# Altium integrated library Infineon - AURIX.IntLib: 81 symbols (part 6 of 8)
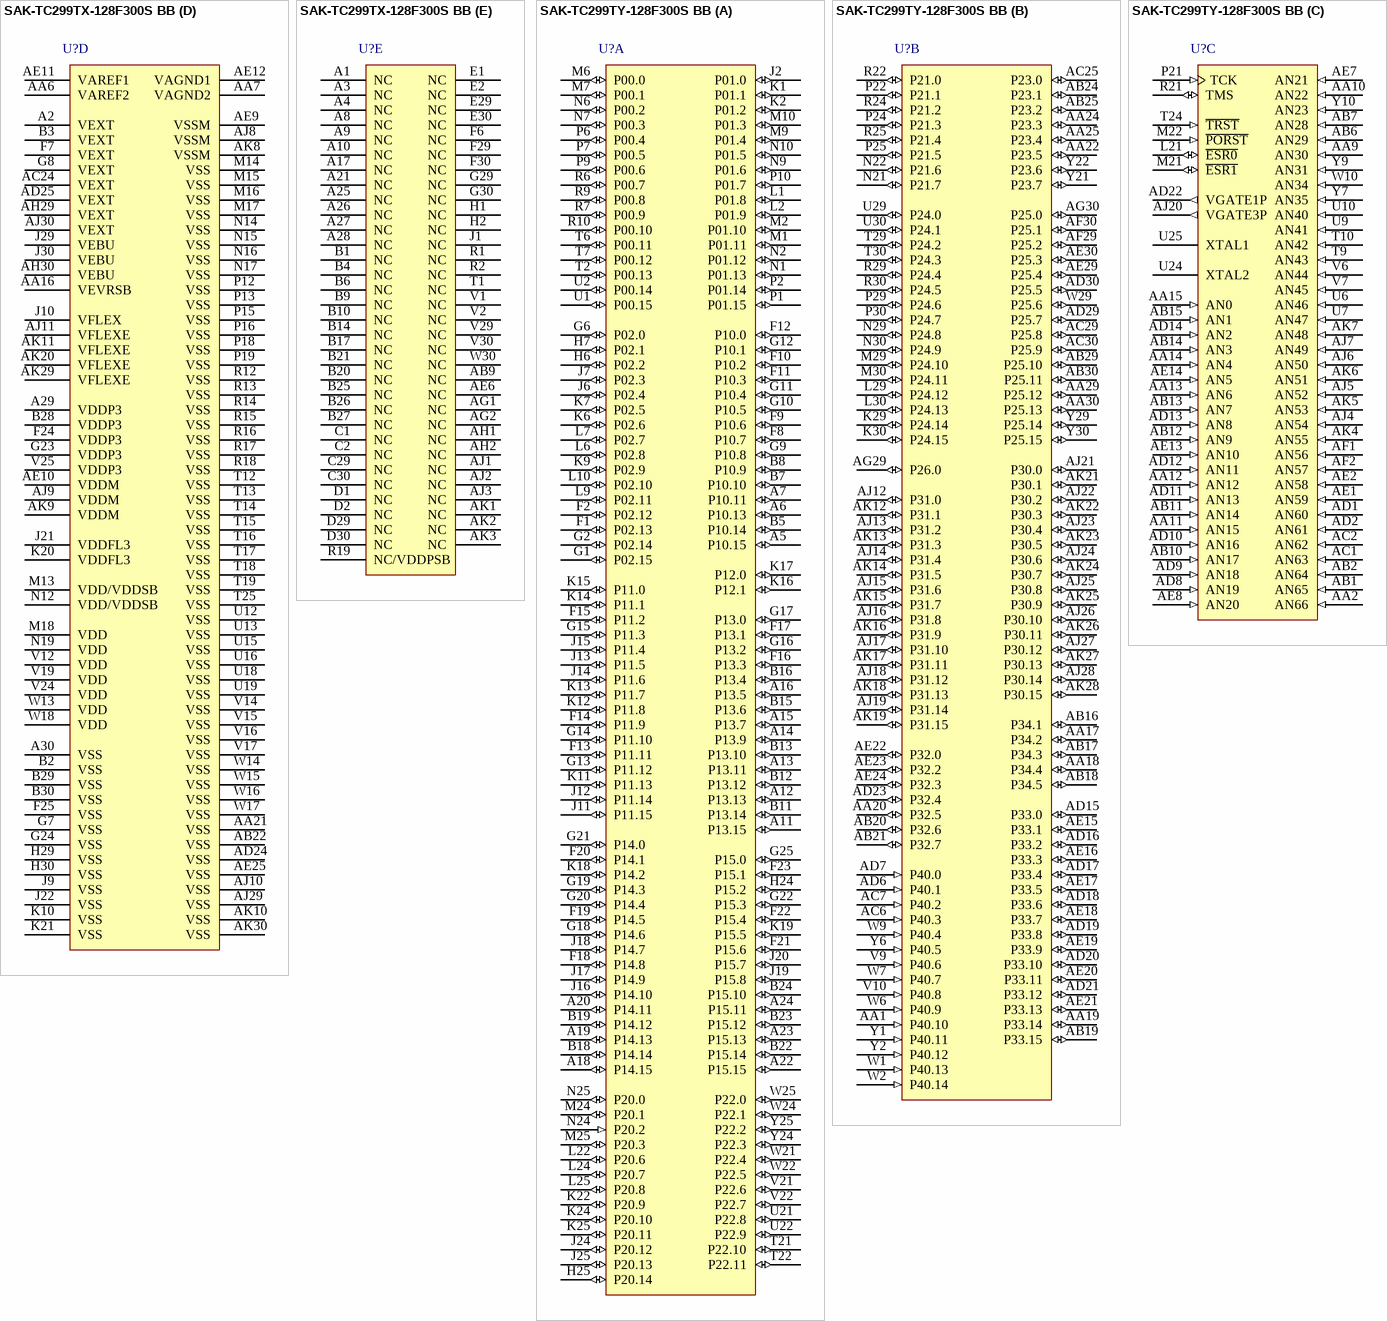
[diagram p40: symbols SAK-TC299TX-128F300S BB to SAK-TC299TY-128F300S BB]

## SAK-TC299TX-128F300S BB
designator U?
AURIX MCU with 2776 KB SRAM, 8 MB Flash, 300 MHz Frequency, -40 to 125 degC, PG-LFBGA-516; ADC Chan.: 84; CAN FD: Yes; Core 0 TC16E DSPR (KB): 120; Core 0 TC16E PSPR (KB): 32; Core 1&2 TC16P DSPR (KB): 240; EEPROM (KB): 128@500k; Flash (MB): 8; FlexRay (#/ch.): 2 / 4; Freq. (MHz): 300; Total SRAM (KB): 2776; DatasheetVersion: Rev. 0.6; PackageReference: PG-LFBGA-516-5; PackageDescription: 516-Pin Plastic (Green) Low Profile Fine Pitch Ball Grid Array Package, 25 x 25 mm Body, 0.8 mm Pitch; Core 1&2 TC16P PSPR (KB): 32; ETH: Yes; HSM: Yes; LMU (KB): 32; Mounting Technology: Surface Mount; ComponentLink1Description: Manufacturer URL; ComponentLink1URL: http://www.infineon.com/
footprint INF-PG-LFBGA-516-5 (BGA, 516-Balls, Body 25x25mm, Pitch 0.8mm)
part A pins: A5 P10.15 (io), A6 P10.13 (io), A7 P10.11 (io), A11 P13.15 (io), A12 P13.13 (io), A13 P13.11 (io), A14 P13.9 (io), A15 P13.7 (io), A16 P13.5 (io), A18 P14.15 (io), A19 P14.13 (io), A20 P14.11 (io), A22 P15.15 (io), A23 P15.13 (io), A24 P15.11 (io), B5 P10.14 (io), B7 P10.10 (io), B8 P10.9 (io), B11 P13.14 (io), B12 P13.12 (io), B13 P13.10 (io), B15 P13.6 (io), B16 P13.4 (io), B18 P14.14 (io), B19 P14.12 (io), B22 P15.14 (io), B23 P15.12 (io), B24 P15.10 (io), F1 P02.13 (io), F2 P02.12 (io), F8 P10.7 (io), F9 P10.6 (io), F10 P10.2 (io), F11 P10.3 (io), F12 P10.0 (io), F13 P11.11 (io), F14 P11.9 (io), F15 P11.2 (io), F16 P13.3 (io), F17 P13.1 (io), F18 P14.8 (io), F19 P14.5 (io), F20 P14.1 (io), F21 P15.6 (io), F22 P15.4 (io), F23 P15.1 (io), G1 P02.15 (io), G2 P02.14 (io), G6 P02.0 (io), G9 P10.8 (io), G10 P10.5 (io), G11 P10.4 (io), G12 P10.1 (io), G13 P11.12 (io), G14 P11.10 (io), G15 P11.3 (io), G16 P13.2 (io), G17 P13.0 (io), G18 P14.6 (io), G19 P14.3 (io), G20 P14.4 (io), G21 P14.0 (io), G22 P15.3 (io), G25 P15.0 (io), H6 P02.2 (io), H7 P02.1 (io), H24 P15.2 (io), H25 P20.14 (io), J2 P01.0 (io), J6 P02.4 (io), J7 P02.3 (io), J11 P11.15 (io), J12 P11.14 (io), J13 P11.5 (io), J14 P11.6 (io), J15 P11.4 (io), J16 P14.10 (io), J17 P14.9 (io), J18 P14.7 (io), J19 P15.8 (io), J20 P15.7 (io), J24 P20.12 (io), J25 P20.13 (io), K1 P01.1 (io), K2 P01.2 (io), K6 P02.6 (io), K7 P02.5 (io), K9 P02.9 (io), K11 P11.13 (io), K12 P11.8 (io), K13 P11.7 (io), K14 P11.1 (io), K15 P11.0 (io), K16 P12.1 (io), K17 P12.0 (io), K18 P14.2 (io), K19 P15.5 (io), K22 P20.9 (io), K24 P20.10 (io), K25 P20.11 (io), L1 P01.8 (io), L2 P01.9 (io), L6 P02.8 (io), L7 P02.7 (io), L9 P02.11 (io), L10 P02.10 (io), L22 P20.6 (io), L24 P20.7 (io), L25 P20.8 (io), M1 P01.11 (io), M2 P01.10 (io), M6 P00.0 (io), M7 P00.1 (io), M9 P01.4 (io), M10 P01.3 (io), M24 P20.1 (io), M25 P20.3 (io), N1 P01.13 (io), N2 P01.12 (io), N6 P00.2 (io), N7 P00.3 (io), N9 P01.6 (io), N10 P01.5 (io), N24 P20.2 (in), N25 P20.0 (io), P1 P01.15 (io), P2 P01.14 (io), P6 P00.4 (io), P7 P00.5 (io), P9 P00.6 (io), P10 P01.7 (io), R6 P00.7 (io), R7 P00.9 (io), R9 P00.8 (io), R10 P00.10 (io), T2 P00.13 (io), T6 P00.11 (io), T7 P00.12 (io), T21 P22.10 (io), T22 P22.11 (io), U1 P00.15 (io), U2 P00.14 (io), U21 P22.8 (io), U22 P22.9 (io), V21 P22.6 (io), V22 P22.7 (io), W21 P22.4 (io), W22 P22.5 (io), W24 P22.1 (io), W25 P22.0 (io), Y24 P22.3 (io), Y25 P22.2 (io)
part B pins: AA1 P40.10 (in), AA17 P34.2 (io), AA18 P34.4 (io), AA19 P33.14 (io), AA20 P32.5 (io), AA22 P23.5 (io), AA24 P23.3 (io), AA25 P23.4 (io), AA29 P25.12 (io), AA30 P25.13 (io), AB16 P34.1 (io), AB17 P34.3 (io), AB18 P34.5 (io), AB19 P33.15 (io), AB20 P32.6 (io), AB21 P32.7 (io), AB24 P23.1 (io), AB25 P23.2 (io), AB29 P25.10 (io), AB30 P25.11 (io), AC6 P40.3 (in), AC7 P40.2 (in), AC25 P23.0 (io), AC29 P25.8 (io), AC30 P25.9 (io), AD6 P40.1 (in), AD7 P40.0 (in), AD15 P33.0 (io), AD16 P33.2 (io), AD17 P33.4 (io), AD18 P33.6 (io), AD19 P33.8 (io), AD20 P33.10 (io), AD21 P33.12 (io), AD23 P32.4 (io), AD29 P25.7 (io), AD30 P25.5 (io), AE15 P33.1 (io), AE16 P33.3 (io), AE17 P33.5 (io), AE18 P33.7 (io), AE19 P33.9 (io), AE20 P33.11 (io), AE21 P33.13 (io), AE22 P32.0 (io), AE23 P32.2 (io), AE24 P32.3 (io), AE29 P25.4 (io), AE30 P25.3 (io), AF29 P25.2 (io), AF30 P25.1 (io), AG29 P26.0 (io), AG30 P25.0 (io), AJ12 P31.0 (io), AJ13 P31.2 (io), AJ14 P31.4 (io), AJ15 P31.6 (io), AJ16 P31.8 (io), AJ17 P31.10 (io), AJ18 P31.12 (io), AJ19 P31.14 (io), AJ21 P30.0 (io), AJ22 P30.2 (io), AJ23 P30.4 (io), AJ24 P30.6 (io), AJ25 P30.8 (io), AJ26 P30.10 (io), AJ27 P30.12 (io), AJ28 P30.14 (io), AK12 P31.1 (io), AK13 P31.3 (io), AK14 P31.5 (io), AK15 P31.7 (io), AK16 P31.9 (io), AK17 P31.11 (io), AK18 P31.13 (io), AK19 P31.15 (io), AK21 P30.1 (io), AK22 P30.3 (io), AK23 P30.5 (io), AK24 P30.7 (io), AK25 P30.9 (io), AK26 P30.11 (io), AK27 P30.13 (io), AK28 P30.15 (io), K29 P24.14 (io), K30 P24.15 (io), L29 P24.12 (io), L30 P24.13 (io), M29 P24.10 (io), M30 P24.11 (io), N21 P21.7 (io), N22 P21.6 (io), N29 P24.8 (io), N30 P24.9 (io), P22 P21.1 (io), P24 P21.3 (io), P25 P21.5 (io), P29 P24.6 (io), P30 P24.7 (io), R22 P21.0 (io), R24 P21.2 (io), R25 P21.4 (io), R29 P24.4 (io), R30 P24.5 (io), T29 P24.2 (io), T30 P24.3 (io), U29 P24.0 (io), U30 P24.1 (io), V9 P40.6 (in), V10 P40.8 (in), W1 P40.13 (in), W2 P40.14 (in), W6 P40.9 (in), W7 P40.7 (in), W9 P40.4 (in), W29 P25.6 (io), Y1 P40.11 (in), Y2 P40.12 (in), Y6 P40.5 (in), Y21 P23.7 (io), Y22 P23.6 (io), Y29 P25.14 (io), Y30 P25.15 (io)
part C pins: AA2 AN66 (in), AA9 AN30 (in), AA10 AN22 (in), AA11 AN15 (in), AA12 AN12 (in), AA13 AN6 (in), AA14 AN4 (in), AA15 AN0 (in), AB1 AN65 (in), AB2 AN64 (in), AB6 AN29 (in), AB7 AN28 (in), AB10 AN17 (in), AB11 AN14 (in), AB12 AN9 (in), AB13 AN7 (in), AB14 AN3 (in), AB15 AN1 (in), AC1 AN63 (in), AC2 AN62 (in), AD1 AN60 (in), AD2 AN61 (in), AD8 AN19 (in), AD9 AN18 (in), AD10 AN16 (in), AD11 AN13 (in), AD12 AN11 (in), AD13 AN8 (in), AD14 AN2 (in), AD22 VGATE1P (out), AE1 AN59 (in), AE2 AN58 (in), AE7 AN21 (in), AE8 AN20 (in), AE13 AN10 (in), AE14 AN5 (in), AF1 AN56 (in), AF2 AN57 (in), AJ4 AN54 (in), AJ5 AN52 (in), AJ6 AN50 (in), AJ7 AN49 (in), AJ20 VGATE3P (out), AK4 AN55 (in), AK5 AN53 (in), AK6 AN51 (in), AK7 AN48 (in), L21 ~{ESR0} (io), M21 ~{ESR1} (io), M22 ~{PORST} (in), P21 TCK (in), R21 TMS (io), T9 AN43 (in), T10 AN42 (in), T24 ~{TRST} (in), U6 AN46 (in), U7 AN47 (in), U9 AN41 (in), U10 AN40 (in), U24 XTAL2, U25 XTAL1, V6 AN44 (in), V7 AN45 (in), W10 AN34 (in), Y7 AN35 (in), Y9 AN31 (in), Y10 AN23 (in)
part D pins: A2 VEXT (power), A29 VDDP3 (power), A30 VSS (power), AA6 VAREF2 (power), AA7 VAGND2 (power), AA16 VEVRSB (power), AA21 VSS (power), AB22 VSS (power), AC24 VEXT (power), AD24 VSS (power), AD25 VEXT (power), AE9 VSSM (power), AE10 VDDM (power), AE11 VAREF1 (power), AE12 VAGND1 (power), AE25 VSS (power), AH29 VEXT (power), AH30 VEBU (power), AJ8 VSSM (power), AJ9 VDDM (power), AJ10 VSS (power), AJ11 VFLEXE (power), AJ29 VSS (power), AJ30 VEXT (power), AK8 VSSM (power), AK9 VDDM (power), AK10 VSS (power), AK11 VFLEXE (power), AK20 VFLEXE (power), AK29 VFLEXE (power), AK30 VSS (power), B2 VSS (power), B3 VEXT (power), B28 VDDP3 (power), B29 VSS (power), B30 VSS (power), F7 VEXT (power), F24 VDDP3 (power), F25 VSS (power), G7 VSS (power), G8 VEXT (power), G23 VDDP3 (power), G24 VSS (power), H29 VSS (power), H30 VSS (power), J9 VSS (power), J10 VFLEX (power), J21 VDDFL3 (power), J22 VSS (power), J29 VEBU (power), J30 VEBU (power), K10 VSS (power), K20 VDDFL3 (power), K21 VSS (power), M13 VDD/VDDSB (power), M14 VSS (power), M15 VSS (power), M16 VSS (power), M17 VSS (power), M18 VDD (power), N12 VDD/VDDSB (power), N14 VSS (power), N15 VSS (power), N16 VSS (power), N17 VSS (power), N19 VDD (power), P12 VSS (power), P13 VSS (power), P15 VSS (power), P16 VSS (power), P18 VSS (power), P19 VSS (power), R12 VSS (power), R13 VSS (power), R14 VSS (power), R15 VSS (power), R16 VSS (power), R17 VSS (power), R18 VSS (power), T12 VSS (power), T13 VSS (power), T14 VSS (power), T15 VSS (power), T16 VSS (power), T17 VSS (power), T18 VSS (power), T19 VSS (power), T25 VSS (power), U12 VSS (power), U13 VSS (power), U15 VSS (power), U16 VSS (power), U18 VSS (power), U19 VSS (power), V12 VDD (power), V14 VSS (power), V15 VSS (power), V16 VSS (power), V17 VSS (power), V19 VDD (power), V24 VDD (power), V25 VDDP3 (power), W13 VDD (power), W14 VSS (power), W15 VSS (power), W16 VSS (power), W17 VSS (power), W18 VDD (power)
part E pins: A1 NC, A3 NC, A4 NC, A8 NC, A9 NC, A10 NC, A17 NC, A21 NC, A25 NC, A26 NC, A27 NC, A28 NC, AB9 NC, AE6 NC, AG1 NC, AG2 NC, AH1 NC, AH2 NC, AJ1 NC, AJ2 NC, AJ3 NC, AK1 NC, AK2 NC, AK3 NC, B1 NC, B4 NC, B6 NC, B9 NC, B10 NC, B14 NC, B17 NC, B20 NC, B21 NC, B25 NC, B26 NC, B27 NC, C1 NC, C2 NC, C29 NC, C30 NC, D1 NC, D2 NC, D29 NC, D30 NC, E1 NC, E2 NC, E29 NC, E30 NC, F6 NC, F29 NC, F30 NC, G29 NC, G30 NC, H1 NC, H2 NC, J1 NC, R1 NC, R2 NC, R19 NC/VDDPSB, T1 NC, V1 NC, V2 NC, V29 NC, V30 NC, W30 NC

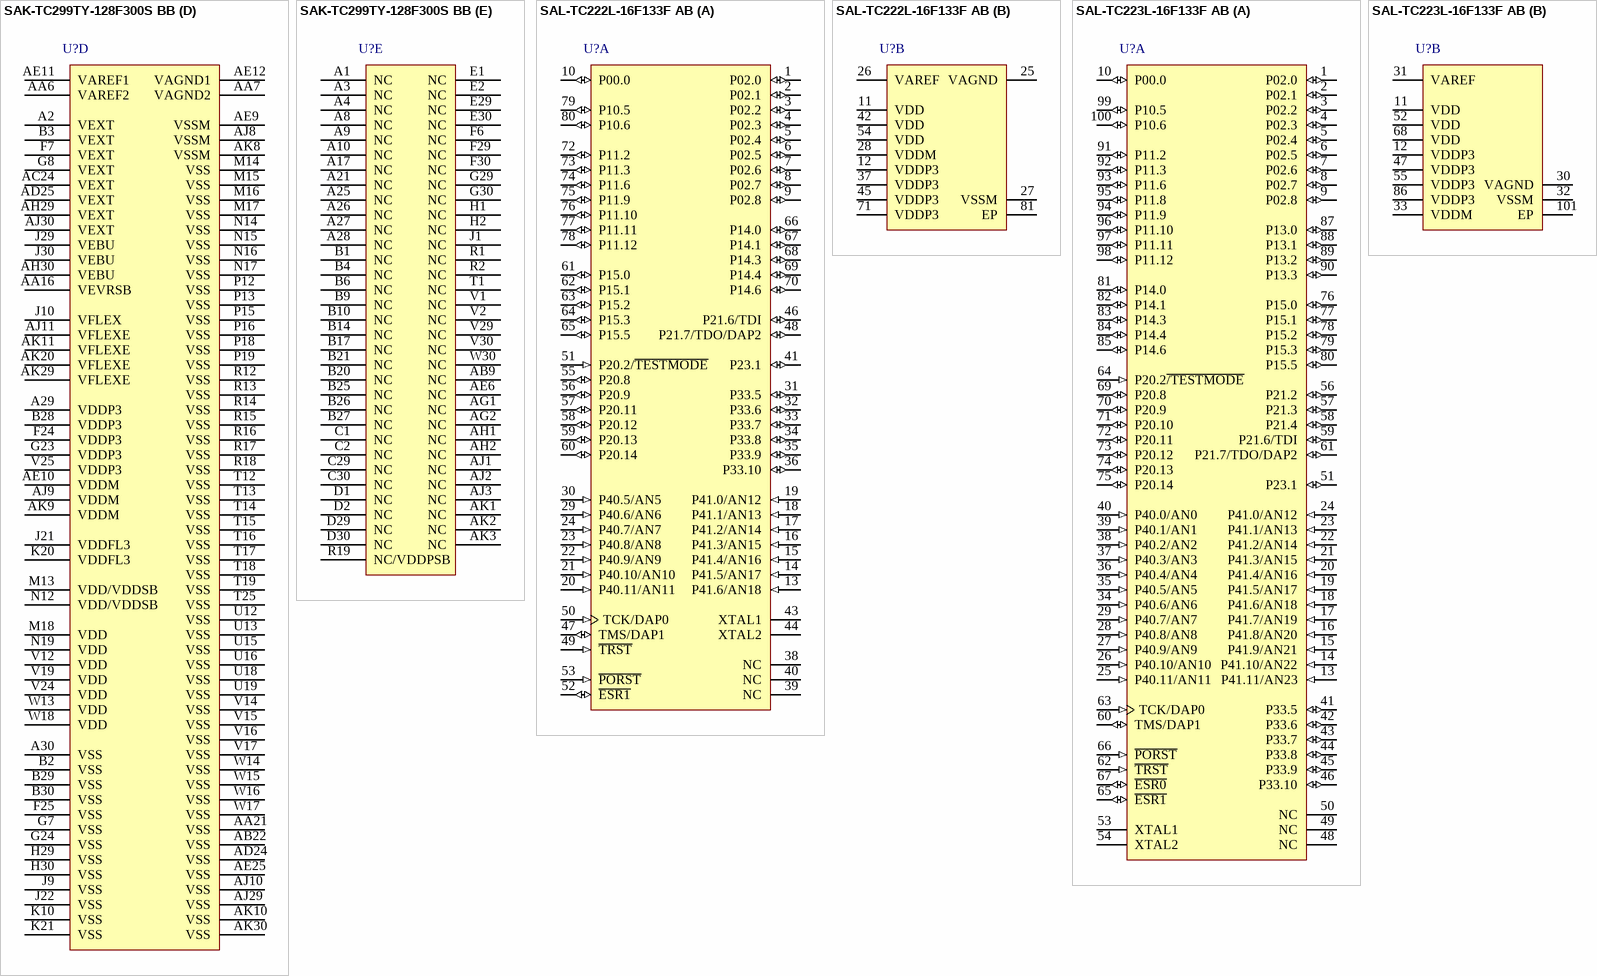
[diagram p26: symbols SAK-TC299TY-128F300S BB to SAL-TC223L-16F133F AB]

## SAK-TC299TY-128F300S BB
designator U?
AURIX MCU with 2776 KB SRAM, 8 MB Flash, 300 MHz Frequency, -40 to 125 degC, PG-LFBGA-516; ADC Chan.: 84; CAN FD: Yes; Core 0 TC16E DSPR (KB): 120; Core 0 TC16E PSPR (KB): 32; Core 1&2 TC16P DSPR (KB): 240; EEPROM (KB): 128@500k; Flash (MB): 8; FlexRay (#/ch.): 2 / 4; Freq. (MHz): 300; HSM: No; Total SRAM (KB): 2776; DatasheetVersion: Rev. 0.6; PackageReference: PG-LFBGA-516-5; PackageDescription: 516-Pin Plastic (Green) Low Profile Fine Pitch Ball Grid Array Package, 25 x 25 mm Body, 0.8 mm Pitch; Core 1&2 TC16P PSPR (KB): 32; ETH: Yes; LMU (KB): 32; Mounting Technology: Surface Mount; ComponentLink1Description: Manufacturer URL; ComponentLink1URL: http://www.infineon.com/
footprint INF-PG-LFBGA-516-5 (BGA, 516-Balls, Body 25x25mm, Pitch 0.8mm)
part A pins: A5 P10.15 (io), A6 P10.13 (io), A7 P10.11 (io), A11 P13.15 (io), A12 P13.13 (io), A13 P13.11 (io), A14 P13.9 (io), A15 P13.7 (io), A16 P13.5 (io), A18 P14.15 (io), A19 P14.13 (io), A20 P14.11 (io), A22 P15.15 (io), A23 P15.13 (io), A24 P15.11 (io), B5 P10.14 (io), B7 P10.10 (io), B8 P10.9 (io), B11 P13.14 (io), B12 P13.12 (io), B13 P13.10 (io), B15 P13.6 (io), B16 P13.4 (io), B18 P14.14 (io), B19 P14.12 (io), B22 P15.14 (io), B23 P15.12 (io), B24 P15.10 (io), F1 P02.13 (io), F2 P02.12 (io), F8 P10.7 (io), F9 P10.6 (io), F10 P10.2 (io), F11 P10.3 (io), F12 P10.0 (io), F13 P11.11 (io), F14 P11.9 (io), F15 P11.2 (io), F16 P13.3 (io), F17 P13.1 (io), F18 P14.8 (io), F19 P14.5 (io), F20 P14.1 (io), F21 P15.6 (io), F22 P15.4 (io), F23 P15.1 (io), G1 P02.15 (io), G2 P02.14 (io), G6 P02.0 (io), G9 P10.8 (io), G10 P10.5 (io), G11 P10.4 (io), G12 P10.1 (io), G13 P11.12 (io), G14 P11.10 (io), G15 P11.3 (io), G16 P13.2 (io), G17 P13.0 (io), G18 P14.6 (io), G19 P14.3 (io), G20 P14.4 (io), G21 P14.0 (io), G22 P15.3 (io), G25 P15.0 (io), H6 P02.2 (io), H7 P02.1 (io), H24 P15.2 (io), H25 P20.14 (io), J2 P01.0 (io), J6 P02.4 (io), J7 P02.3 (io), J11 P11.15 (io), J12 P11.14 (io), J13 P11.5 (io), J14 P11.6 (io), J15 P11.4 (io), J16 P14.10 (io), J17 P14.9 (io), J18 P14.7 (io), J19 P15.8 (io), J20 P15.7 (io), J24 P20.12 (io), J25 P20.13 (io), K1 P01.1 (io), K2 P01.2 (io), K6 P02.6 (io), K7 P02.5 (io), K9 P02.9 (io), K11 P11.13 (io), K12 P11.8 (io), K13 P11.7 (io), K14 P11.1 (io), K15 P11.0 (io), K16 P12.1 (io), K17 P12.0 (io), K18 P14.2 (io), K19 P15.5 (io), K22 P20.9 (io), K24 P20.10 (io), K25 P20.11 (io), L1 P01.8 (io), L2 P01.9 (io), L6 P02.8 (io), L7 P02.7 (io), L9 P02.11 (io), L10 P02.10 (io), L22 P20.6 (io), L24 P20.7 (io), L25 P20.8 (io), M1 P01.11 (io), M2 P01.10 (io), M6 P00.0 (io), M7 P00.1 (io), M9 P01.4 (io), M10 P01.3 (io), M24 P20.1 (io), M25 P20.3 (io), N1 P01.13 (io), N2 P01.12 (io), N6 P00.2 (io), N7 P00.3 (io), N9 P01.6 (io), N10 P01.5 (io), N24 P20.2 (in), N25 P20.0 (io), P1 P01.15 (io), P2 P01.14 (io), P6 P00.4 (io), P7 P00.5 (io), P9 P00.6 (io), P10 P01.7 (io), R6 P00.7 (io), R7 P00.9 (io), R9 P00.8 (io), R10 P00.10 (io), T2 P00.13 (io), T6 P00.11 (io), T7 P00.12 (io), T21 P22.10 (io), T22 P22.11 (io), U1 P00.15 (io), U2 P00.14 (io), U21 P22.8 (io), U22 P22.9 (io), V21 P22.6 (io), V22 P22.7 (io), W21 P22.4 (io), W22 P22.5 (io), W24 P22.1 (io), W25 P22.0 (io), Y24 P22.3 (io), Y25 P22.2 (io)
part B pins: AA1 P40.10 (in), AA17 P34.2 (io), AA18 P34.4 (io), AA19 P33.14 (io), AA20 P32.5 (io), AA22 P23.5 (io), AA24 P23.3 (io), AA25 P23.4 (io), AA29 P25.12 (io), AA30 P25.13 (io), AB16 P34.1 (io), AB17 P34.3 (io), AB18 P34.5 (io), AB19 P33.15 (io), AB20 P32.6 (io), AB21 P32.7 (io), AB24 P23.1 (io), AB25 P23.2 (io), AB29 P25.10 (io), AB30 P25.11 (io), AC6 P40.3 (in), AC7 P40.2 (in), AC25 P23.0 (io), AC29 P25.8 (io), AC30 P25.9 (io), AD6 P40.1 (in), AD7 P40.0 (in), AD15 P33.0 (io), AD16 P33.2 (io), AD17 P33.4 (io), AD18 P33.6 (io), AD19 P33.8 (io), AD20 P33.10 (io), AD21 P33.12 (io), AD23 P32.4 (io), AD29 P25.7 (io), AD30 P25.5 (io), AE15 P33.1 (io), AE16 P33.3 (io), AE17 P33.5 (io), AE18 P33.7 (io), AE19 P33.9 (io), AE20 P33.11 (io), AE21 P33.13 (io), AE22 P32.0 (io), AE23 P32.2 (io), AE24 P32.3 (io), AE29 P25.4 (io), AE30 P25.3 (io), AF29 P25.2 (io), AF30 P25.1 (io), AG29 P26.0 (io), AG30 P25.0 (io), AJ12 P31.0 (io), AJ13 P31.2 (io), AJ14 P31.4 (io), AJ15 P31.6 (io), AJ16 P31.8 (io), AJ17 P31.10 (io), AJ18 P31.12 (io), AJ19 P31.14 (io), AJ21 P30.0 (io), AJ22 P30.2 (io), AJ23 P30.4 (io), AJ24 P30.6 (io), AJ25 P30.8 (io), AJ26 P30.10 (io), AJ27 P30.12 (io), AJ28 P30.14 (io), AK12 P31.1 (io), AK13 P31.3 (io), AK14 P31.5 (io), AK15 P31.7 (io), AK16 P31.9 (io), AK17 P31.11 (io), AK18 P31.13 (io), AK19 P31.15 (io), AK21 P30.1 (io), AK22 P30.3 (io), AK23 P30.5 (io), AK24 P30.7 (io), AK25 P30.9 (io), AK26 P30.11 (io), AK27 P30.13 (io), AK28 P30.15 (io), K29 P24.14 (io), K30 P24.15 (io), L29 P24.12 (io), L30 P24.13 (io), M29 P24.10 (io), M30 P24.11 (io), N21 P21.7 (io), N22 P21.6 (io), N29 P24.8 (io), N30 P24.9 (io), P22 P21.1 (io), P24 P21.3 (io), P25 P21.5 (io), P29 P24.6 (io), P30 P24.7 (io), R22 P21.0 (io), R24 P21.2 (io), R25 P21.4 (io), R29 P24.4 (io), R30 P24.5 (io), T29 P24.2 (io), T30 P24.3 (io), U29 P24.0 (io), U30 P24.1 (io), V9 P40.6 (in), V10 P40.8 (in), W1 P40.13 (in), W2 P40.14 (in), W6 P40.9 (in), W7 P40.7 (in), W9 P40.4 (in), W29 P25.6 (io), Y1 P40.11 (in), Y2 P40.12 (in), Y6 P40.5 (in), Y21 P23.7 (io), Y22 P23.6 (io), Y29 P25.14 (io), Y30 P25.15 (io)
part C pins: AA2 AN66 (in), AA9 AN30 (in), AA10 AN22 (in), AA11 AN15 (in), AA12 AN12 (in), AA13 AN6 (in), AA14 AN4 (in), AA15 AN0 (in), AB1 AN65 (in), AB2 AN64 (in), AB6 AN29 (in), AB7 AN28 (in), AB10 AN17 (in), AB11 AN14 (in), AB12 AN9 (in), AB13 AN7 (in), AB14 AN3 (in), AB15 AN1 (in), AC1 AN63 (in), AC2 AN62 (in), AD1 AN60 (in), AD2 AN61 (in), AD8 AN19 (in), AD9 AN18 (in), AD10 AN16 (in), AD11 AN13 (in), AD12 AN11 (in), AD13 AN8 (in), AD14 AN2 (in), AD22 VGATE1P (out), AE1 AN59 (in), AE2 AN58 (in), AE7 AN21 (in), AE8 AN20 (in), AE13 AN10 (in), AE14 AN5 (in), AF1 AN56 (in), AF2 AN57 (in), AJ4 AN54 (in), AJ5 AN52 (in), AJ6 AN50 (in), AJ7 AN49 (in), AJ20 VGATE3P (out), AK4 AN55 (in), AK5 AN53 (in), AK6 AN51 (in), AK7 AN48 (in), L21 ~{ESR0} (io), M21 ~{ESR1} (io), M22 ~{PORST} (in), P21 TCK (in), R21 TMS (io), T9 AN43 (in), T10 AN42 (in), T24 ~{TRST} (in), U6 AN46 (in), U7 AN47 (in), U9 AN41 (in), U10 AN40 (in), U24 XTAL2, U25 XTAL1, V6 AN44 (in), V7 AN45 (in), W10 AN34 (in), Y7 AN35 (in), Y9 AN31 (in), Y10 AN23 (in)
part D pins: A2 VEXT (power), A29 VDDP3 (power), A30 VSS (power), AA6 VAREF2 (power), AA7 VAGND2 (power), AA16 VEVRSB (power), AA21 VSS (power), AB22 VSS (power), AC24 VEXT (power), AD24 VSS (power), AD25 VEXT (power), AE9 VSSM (power), AE10 VDDM (power), AE11 VAREF1 (power), AE12 VAGND1 (power), AE25 VSS (power), AH29 VEXT (power), AH30 VEBU (power), AJ8 VSSM (power), AJ9 VDDM (power), AJ10 VSS (power), AJ11 VFLEXE (power), AJ29 VSS (power), AJ30 VEXT (power), AK8 VSSM (power), AK9 VDDM (power), AK10 VSS (power), AK11 VFLEXE (power), AK20 VFLEXE (power), AK29 VFLEXE (power), AK30 VSS (power), B2 VSS (power), B3 VEXT (power), B28 VDDP3 (power), B29 VSS (power), B30 VSS (power), F7 VEXT (power), F24 VDDP3 (power), F25 VSS (power), G7 VSS (power), G8 VEXT (power), G23 VDDP3 (power), G24 VSS (power), H29 VSS (power), H30 VSS (power), J9 VSS (power), J10 VFLEX (power), J21 VDDFL3 (power), J22 VSS (power), J29 VEBU (power), J30 VEBU (power), K10 VSS (power), K20 VDDFL3 (power), K21 VSS (power), M13 VDD/VDDSB (power), M14 VSS (power), M15 VSS (power), M16 VSS (power), M17 VSS (power), M18 VDD (power), N12 VDD/VDDSB (power), N14 VSS (power), N15 VSS (power), N16 VSS (power), N17 VSS (power), N19 VDD (power), P12 VSS (power), P13 VSS (power), P15 VSS (power), P16 VSS (power), P18 VSS (power), P19 VSS (power), R12 VSS (power), R13 VSS (power), R14 VSS (power), R15 VSS (power), R16 VSS (power), R17 VSS (power), R18 VSS (power), T12 VSS (power), T13 VSS (power), T14 VSS (power), T15 VSS (power), T16 VSS (power), T17 VSS (power), T18 VSS (power), T19 VSS (power), T25 VSS (power), U12 VSS (power), U13 VSS (power), U15 VSS (power), U16 VSS (power), U18 VSS (power), U19 VSS (power), V12 VDD (power), V14 VSS (power), V15 VSS (power), V16 VSS (power), V17 VSS (power), V19 VDD (power), V24 VDD (power), V25 VDDP3 (power), W13 VDD (power), W14 VSS (power), W15 VSS (power), W16 VSS (power), W17 VSS (power), W18 VDD (power)
part E pins: A1 NC, A3 NC, A4 NC, A8 NC, A9 NC, A10 NC, A17 NC, A21 NC, A25 NC, A26 NC, A27 NC, A28 NC, AB9 NC, AE6 NC, AG1 NC, AG2 NC, AH1 NC, AH2 NC, AJ1 NC, AJ2 NC, AJ3 NC, AK1 NC, AK2 NC, AK3 NC, B1 NC, B4 NC, B6 NC, B9 NC, B10 NC, B14 NC, B17 NC, B20 NC, B21 NC, B25 NC, B26 NC, B27 NC, C1 NC, C2 NC, C29 NC, C30 NC, D1 NC, D2 NC, D29 NC, D30 NC, E1 NC, E2 NC, E29 NC, E30 NC, F6 NC, F29 NC, F30 NC, G29 NC, G30 NC, H1 NC, H2 NC, J1 NC, R1 NC, R2 NC, R19 NC/VDDPSB, T1 NC, V1 NC, V2 NC, V29 NC, V30 NC, W30 NC

## SAL-TC222L-16F133F AB
designator U?
AURIX MCU with 96 KB SRAM, 1 MB Flash, 133 MHz Frequency, -40 to 150 degC, PG-TQFP-80; ADC Chan.: 14; Core 0 TC16E DSPR (KB): 88; Core 0 TC16E PSPR (KB): 8; DFLASH (KB@cycles): 96@125k; ETH: No; Flash (MB): 1; Freq. (MHz): 133; Lock-step: Yes; Total SRAM (KB): 96; DatasheetVersion: Rev. 0.7; PackageReference: PG-TQFP-80-7; PackageDescription: 80-Pin Plastic (Green) Low Profile Quad Flat Package, 10 x 10 mm Body, 0.4 mm Pitch; FlexRay (#/ch.): No; HSM: No; Mounting Technology: Surface Mount; ComponentLink1Description: Manufacturer URL; ComponentLink1URL: http://www.infineon.com/
footprint INF-PG-TQFP-80-7-5700X5700TP_V (QFP, 80-Leads, Body 10x10mm, Pitch 0.4mm, Thermal Pad 5.7x5.7mm)
part A pins: 1 P02.0 (io), 2 P02.1 (io), 3 P02.2 (io), 4 P02.3 (io), 5 P02.4 (io), 6 P02.5 (io), 7 P02.6 (io), 8 P02.7 (io), 9 P02.8 (io), 10 P00.0 (io), 13 P41.6/AN18 (in), 14 P41.5/AN17 (in), 15 P41.4/AN16 (in), 16 P41.3/AN15 (in), 17 P41.2/AN14 (in), 18 P41.1/AN13 (in), 19 P41.0/AN12 (in), 20 P40.11/AN11 (in), 21 P40.10/AN10 (in), 22 P40.9/AN9 (in), 23 P40.8/AN8 (in), 24 P40.7/AN7 (in), 29 P40.6/AN6 (in), 30 P40.5/AN5 (in), 31 P33.5 (io), 32 P33.6 (io), 33 P33.7 (io), 34 P33.8 (io), 35 P33.9 (io), 36 P33.10 (io), 38 NC, 39 NC, 40 NC, 41 P23.1 (io), 43 XTAL1, 44 XTAL2, 46 P21.6/TDI (io), 47 TMS/DAP1 (io), 48 P21.7/TDO/DAP2 (io), 49 ~{TRST} (in), 50 TCK/DAP0 (in), 51 P20.2/~{TESTMODE} (in), 52 ~{ESR1} (io), 53 ~{PORST} (in), 55 P20.8 (io), 56 P20.9 (io), 57 P20.11 (io), 58 P20.12 (io), 59 P20.13 (io), 60 P20.14 (io), 61 P15.0 (io), 62 P15.1 (io), 63 P15.2 (io), 64 P15.3 (io), 65 P15.5 (io), 66 P14.0 (io), 67 P14.1 (io), 68 P14.3 (io), 69 P14.4 (io), 70 P14.6 (io), 72 P11.2 (io), 73 P11.3 (io), 74 P11.6 (io), 75 P11.9 (io), 76 P11.10 (io), 77 P11.11 (io), 78 P11.12 (io), 79 P10.5 (io), 80 P10.6 (io)
part B pins: 11 VDD (power), 12 VDDP3 (power), 25 VAGND (power), 26 VAREF (power), 27 VSSM (power), 28 VDDM (power), 37 VDDP3 (power), 42 VDD (power), 45 VDDP3 (power), 54 VDD (power), 71 VDDP3 (power), 81 EP

## SAL-TC223L-16F133F AB
designator U?
AURIX MCU with 96 KB SRAM, 1 MB Flash, 133 MHz Frequency, -40 to 150 degC, PG-TQFP-100; ADC Chan.: 24; Core 0 TC16E DSPR (KB): 88; Core 0 TC16E PSPR (KB): 8; DFLASH (KB@cycles): 96@125k; ETH: No; Flash (MB): 1; Freq. (MHz): 133; Lock-step: Yes; Total SRAM (KB): 96; DatasheetVersion: Rev. 0.7; PackageReference: PG-TQFP-100-23; PackageDescription: 100-Pin Plastic (Green) Low Profile Quad Flat Package, 12 x 12 mm Body, 0.4 mm Pitch; FlexRay (#/ch.): No; HSM: No; Mounting Technology: Surface Mount; ComponentLink1Description: Manufacturer URL; ComponentLink1URL: http://www.infineon.com/
footprint INF-PG-TQFP-100-23-5700X5700TP_V (QFP, 100-Leads, Body 12x12mm, Pitch 0.4mm, Thermal Pad 5.7x5.7mm)
part A pins: 1 P02.0 (io), 2 P02.1 (io), 3 P02.2 (io), 4 P02.3 (io), 5 P02.4 (io), 6 P02.5 (io), 7 P02.6 (io), 8 P02.7 (io), 9 P02.8 (io), 10 P00.0 (io), 13 P41.11/AN23 (in), 14 P41.10/AN22 (in), 15 P41.9/AN21 (in), 16 P41.8/AN20 (in), 17 P41.7/AN19 (in), 18 P41.6/AN18 (in), 19 P41.5/AN17 (in), 20 P41.4/AN16 (in), 21 P41.3/AN15 (in), 22 P41.2/AN14 (in), 23 P41.1/AN13 (in), 24 P41.0/AN12 (in), 25 P40.11/AN11 (in), 26 P40.10/AN10 (in), 27 P40.9/AN9 (in), 28 P40.8/AN8 (in), 29 P40.7/AN7 (in), 34 P40.6/AN6 (in), 35 P40.5/AN5 (in), 36 P40.4/AN4 (in), 37 P40.3/AN3 (in), 38 P40.2/AN2 (in), 39 P40.1/AN1 (in), 40 P40.0/AN0 (in), 41 P33.5 (io), 42 P33.6 (io), 43 P33.7 (io), 44 P33.8 (io), 45 P33.9 (io), 46 P33.10 (io), 48 NC, 49 NC, 50 NC, 51 P23.1 (io), 53 XTAL1, 54 XTAL2, 56 P21.2 (io), 57 P21.3 (io), 58 P21.4 (io), 59 P21.6/TDI (io), 60 TMS/DAP1 (io), 61 P21.7/TDO/DAP2 (io), 62 ~{TRST} (in), 63 TCK/DAP0 (in), 64 P20.2~{/TESTMODE} (in), 65 ~{ESR1} (io), 66 ~{PORST} (in), 67 ~{ESR0} (io), 69 P20.8 (io), 70 P20.9 (io), 71 P20.10 (io), 72 P20.11 (io), 73 P20.12 (io), 74 P20.13 (io), 75 P20.14 (io), 76 P15.0 (io), 77 P15.1 (io), 78 P15.2 (io), 79 P15.3 (io), 80 P15.5 (io), 81 P14.0 (io), 82 P14.1 (io), 83 P14.3 (io), 84 P14.4 (io), 85 P14.6 (io), 87 P13.0 (io), 88 P13.1 (io), 89 P13.2 (io), 90 P13.3 (io), 91 P11.2 (io), 92 P11.3 (io), 93 P11.6 (io), 94 P11.9 (io), 95 P11.8 (io), 96 P11.10 (io), 97 P11.11 (io), 98 P11.12 (io), 99 P10.5 (io), 100 P10.6 (io)
part B pins: 11 VDD (power), 12 VDDP3 (power), 30 VAGND (power), 31 VAREF (power), 32 VSSM (power), 33 VDDM (power), 47 VDDP3 (power), 52 VDD (power), 55 VDDP3 (power), 68 VDD (power), 86 VDDP3 (power), 101 EP

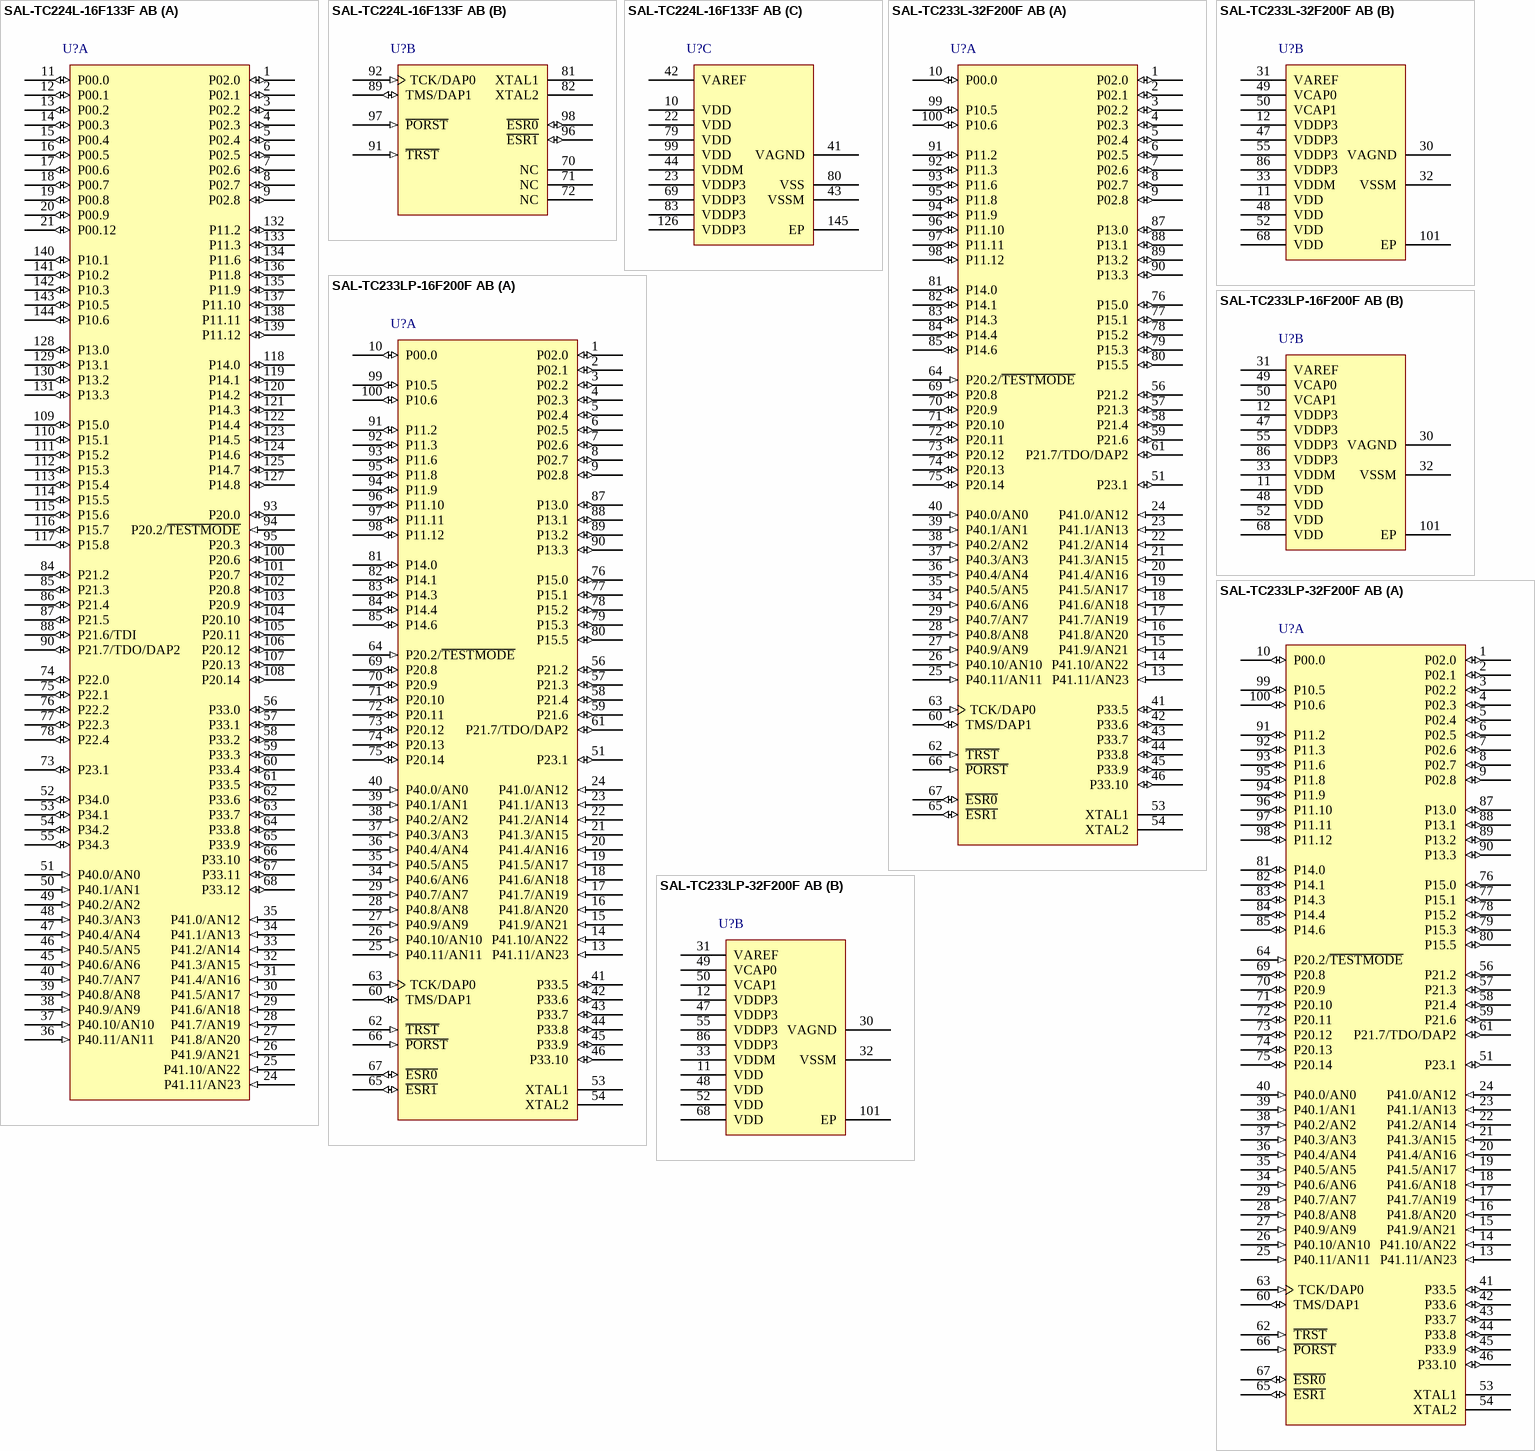
[diagram p27: symbols SAL-TC224L-16F133F AB to SAL-TC233LP-32F200F AB]

## SAL-TC224L-16F133F AB
designator U?
AURIX MCU with 96 KB SRAM, 1 MB Flash, 133 MHz Frequency, -40 to 150 degC, PG-TQFP-144; ADC Chan.: 24; Core 0 TC16E DSPR (KB): 88; Core 0 TC16E PSPR (KB): 8; DFLASH (KB@cycles): 96@125k; ETH: No; Flash (MB): 1; Freq. (MHz): 133; Lock-step: Yes; Total SRAM (KB): 96; DatasheetVersion: Rev. 0.7; PackageReference: PG-TQFP-144-27; PackageDescription: 144-Pin Plastic (Green) Low Profile Quad Flat Package, 16 x 16 mm Body, 0.4 mm Pitch; FlexRay (#/ch.): No; HSM: No; Mounting Technology: Surface Mount; ComponentLink1Description: Manufacturer URL; ComponentLink1URL: http://www.infineon.com/
footprint INF-PG-TQFP-144-27-5700X5700TP_V (QFP, 144-Leads, Body 16x16mm, Pitch 0.4mm, Thermal Pad 5.7x5.7mm)
part A pins: 1 P02.0 (io), 2 P02.1 (io), 3 P02.2 (io), 4 P02.3 (io), 5 P02.4 (io), 6 P02.5 (io), 7 P02.6 (io), 8 P02.7 (io), 9 P02.8 (io), 11 P00.0 (io), 12 P00.1 (io), 13 P00.2 (io), 14 P00.3 (io), 15 P00.4 (io), 16 P00.5 (io), 17 P00.6 (io), 18 P00.7 (io), 19 P00.8 (io), 20 P00.9 (io), 21 P00.12 (io), 24 P41.11/AN23 (in), 25 P41.10/AN22 (in), 26 P41.9/AN21 (in), 27 P41.8/AN20 (in), 28 P41.7/AN19 (in), 29 P41.6/AN18 (in), 30 P41.5/AN17 (in), 31 P41.4/AN16 (in), 32 P41.3/AN15 (in), 33 P41.2/AN14 (in), 34 P41.1/AN13 (in), 35 P41.0/AN12 (in), 36 P40.11/AN11 (in), 37 P40.10/AN10 (in), 38 P40.9/AN9 (in), 39 P40.8/AN8 (in), 40 P40.7/AN7 (in), 45 P40.6/AN6 (in), 46 P40.5/AN5 (in), 47 P40.4/AN4 (in), 48 P40.3/AN3 (in), 49 P40.2/AN2 (in), 50 P40.1/AN1 (in), 51 P40.0/AN0 (in), 52 P34.0 (io), 53 P34.1 (io), 54 P34.2 (io), 55 P34.3 (io), 56 P33.0 (io), 57 P33.1 (io), 58 P33.2 (io), 59 P33.3 (io), 60 P33.4 (io), 61 P33.5 (io), 62 P33.6 (io), 63 P33.7 (io), 64 P33.8 (io), 65 P33.9 (io), 66 P33.10 (io), 67 P33.11 (io), 68 P33.12 (io), 73 P23.1 (io), 74 P22.0 (io), 75 P22.1 (io), 76 P22.2 (io), 77 P22.3 (io), 78 P22.4 (io), 84 P21.2 (io), 85 P21.3 (io), 86 P21.4 (io), 87 P21.5 (io), 88 P21.6/TDI (io), 90 P21.7/TDO/DAP2 (io), 93 P20.0 (io), 94 P20.2/~{TESTMODE} (in), 95 P20.3 (io), 100 P20.6 (io), 101 P20.7 (io), 102 P20.8 (io), 103 P20.9 (io), 104 P20.10 (io), 105 P20.11 (io), 106 P20.12 (io), 107 P20.13 (io), 108 P20.14 (io), 109 P15.0 (io), 110 P15.1 (io), 111 P15.2 (io), 112 P15.3 (io), 113 P15.4 (io), 114 P15.5 (io), 115 P15.6 (io), 116 P15.7 (io), 117 P15.8 (io), 118 P14.0 (io), 119 P14.1 (io), 120 P14.2 (io), 121 P14.3 (io), 122 P14.4 (io), 123 P14.5 (io), 124 P14.6 (io), 125 P14.7 (io), 127 P14.8 (io), 128 P13.0 (io), 129 P13.1 (io), 130 P13.2 (io), 131 P13.3 (io), 132 P11.2 (io), 133 P11.3 (io), 134 P11.6 (io), 135 P11.9 (io), 136 P11.8 (io), 137 P11.10 (io), 138 P11.11 (io), 139 P11.12 (io), 140 P10.1 (io), 141 P10.2 (io), 142 P10.3 (io), 143 P10.5 (io), 144 P10.6 (io)
part B pins: 70 NC, 71 NC, 72 NC, 81 XTAL1, 82 XTAL2, 89 TMS/DAP1 (io), 91 ~{TRST} (in), 92 TCK/DAP0 (in), 96 ~{ESR1} (io), 97 ~{PORST} (in), 98 ~{ESR0} (io)
part C pins: 10 VDD (power), 22 VDD (power), 23 VDDP3 (power), 41 VAGND (power), 42 VAREF (power), 43 VSSM (power), 44 VDDM (power), 69 VDDP3 (power), 79 VDD (power), 80 VSS (power), 83 VDDP3 (power), 99 VDD (power), 126 VDDP3 (power), 145 EP

## SAL-TC233L-32F200F AB
designator U?
AURIX MCU with 192 KB SRAM, 2 MB Flash, 200 MHz Frequency, -40 to 150 degC, PG-TQFP-100; ADC Chan.: 24; Core 0 TC16E DSPR (KB): 184; Core 0 TC16E PSPR (KB): 8; DFLASH (KB@cycles): 128@125k; ETH: No; Flash (MB): 2; FlexRay (#/ch.): 1 / 2; Freq. (MHz): 200; Total SRAM (KB): 192; DatasheetVersion: Rev. 1.1; PackageReference: PG-TQFP-100-23; PackageDescription: 100-Pin Plastic (Green) Low Profile Quad Flat Package, 12 x 12 mm Body, 0.4 mm Pitch; HSM: No; Mounting Technology: Surface Mount; ComponentLink1Description: Manufacturer URL; ComponentLink1URL: http://www.infineon.com/
footprint INF-PG-TQFP-100-23-5700X5700TP_V (QFP, 100-Leads, Body 12x12mm, Pitch 0.4mm, Thermal Pad 5.7x5.7mm)
part A pins: 1 P02.0 (io), 2 P02.1 (io), 3 P02.2 (io), 4 P02.3 (io), 5 P02.4 (io), 6 P02.5 (io), 7 P02.6 (io), 8 P02.7 (io), 9 P02.8 (io), 10 P00.0 (io), 13 P41.11/AN23 (in), 14 P41.10/AN22 (in), 15 P41.9/AN21 (in), 16 P41.8/AN20 (in), 17 P41.7/AN19 (in), 18 P41.6/AN18 (in), 19 P41.5/AN17 (in), 20 P41.4/AN16 (in), 21 P41.3/AN15 (in), 22 P41.2/AN14 (in), 23 P41.1/AN13 (in), 24 P41.0/AN12 (in), 25 P40.11/AN11 (in), 26 P40.10/AN10 (in), 27 P40.9/AN9 (in), 28 P40.8/AN8 (in), 29 P40.7/AN7 (in), 34 P40.6/AN6 (in), 35 P40.5/AN5 (in), 36 P40.4/AN4 (in), 37 P40.3/AN3 (in), 38 P40.2/AN2 (in), 39 P40.1/AN1 (in), 40 P40.0/AN0 (in), 41 P33.5 (io), 42 P33.6 (io), 43 P33.7 (io), 44 P33.8 (io), 45 P33.9 (io), 46 P33.10 (io), 51 P23.1 (io), 53 XTAL1, 54 XTAL2, 56 P21.2 (io), 57 P21.3 (io), 58 P21.4 (io), 59 P21.6 (io), 60 TMS/DAP1 (io), 61 P21.7/TDO/DAP2 (io), 62 ~{TRST} (in), 63 TCK/DAP0 (in), 64 P20.2/~{TESTMODE} (in), 65 ~{ESR1} (io), 66 ~{PORST} (in), 67 ~{ESR0} (io), 69 P20.8 (io), 70 P20.9 (io), 71 P20.10 (io), 72 P20.11 (io), 73 P20.12 (io), 74 P20.13 (io), 75 P20.14 (io), 76 P15.0 (io), 77 P15.1 (io), 78 P15.2 (io), 79 P15.3 (io), 80 P15.5 (io), 81 P14.0 (io), 82 P14.1 (io), 83 P14.3 (io), 84 P14.4 (io), 85 P14.6 (io), 87 P13.0 (io), 88 P13.1 (io), 89 P13.2 (io), 90 P13.3 (io), 91 P11.2 (io), 92 P11.3 (io), 93 P11.6 (io), 94 P11.9 (io), 95 P11.8 (io), 96 P11.10 (io), 97 P11.11 (io), 98 P11.12 (io), 99 P10.5 (io), 100 P10.6 (io)
part B pins: 11 VDD (power), 12 VDDP3 (power), 30 VAGND (power), 31 VAREF (power), 32 VSSM (power), 33 VDDM (power), 47 VDDP3 (power), 48 VDD (power), 49 VCAP0 (power), 50 VCAP1 (power), 52 VDD (power), 55 VDDP3 (power), 68 VDD (power), 86 VDDP3 (power), 101 EP (power)

## SAL-TC233LP-16F200F AB
designator U?
AURIX MCU with 96 KB SRAM, 1 MB Flash, 200 MHz Frequency, -40 to 150 degC, PG-TQFP-100; ADC Chan.: 24; Core 0 TC16E DSPR (KB): 88; Core 0 TC16E PSPR (KB): 8; DFLASH (KB@cycles): 128@125k; ETH: No; Flash (MB): 1; FlexRay (#/ch.): 1 / 2; Freq. (MHz): 200; HSM: Yes; Total SRAM (KB): 96; DatasheetVersion: Rev. 1.1; PackageReference: PG-TQFP-100-23; PackageDescription: 100-Pin Plastic (Green) Low Profile Quad Flat Package, 12 x 12 mm Body, 0.4 mm Pitch; Mounting Technology: Surface Mount; ComponentLink1Description: Manufacturer URL; ComponentLink1URL: http://www.infineon.com/
footprint INF-PG-TQFP-100-23-5700X5700TP_V (QFP, 100-Leads, Body 12x12mm, Pitch 0.4mm, Thermal Pad 5.7x5.7mm)
part A pins: 1 P02.0 (io), 2 P02.1 (io), 3 P02.2 (io), 4 P02.3 (io), 5 P02.4 (io), 6 P02.5 (io), 7 P02.6 (io), 8 P02.7 (io), 9 P02.8 (io), 10 P00.0 (io), 13 P41.11/AN23 (in), 14 P41.10/AN22 (in), 15 P41.9/AN21 (in), 16 P41.8/AN20 (in), 17 P41.7/AN19 (in), 18 P41.6/AN18 (in), 19 P41.5/AN17 (in), 20 P41.4/AN16 (in), 21 P41.3/AN15 (in), 22 P41.2/AN14 (in), 23 P41.1/AN13 (in), 24 P41.0/AN12 (in), 25 P40.11/AN11 (in), 26 P40.10/AN10 (in), 27 P40.9/AN9 (in), 28 P40.8/AN8 (in), 29 P40.7/AN7 (in), 34 P40.6/AN6 (in), 35 P40.5/AN5 (in), 36 P40.4/AN4 (in), 37 P40.3/AN3 (in), 38 P40.2/AN2 (in), 39 P40.1/AN1 (in), 40 P40.0/AN0 (in), 41 P33.5 (io), 42 P33.6 (io), 43 P33.7 (io), 44 P33.8 (io), 45 P33.9 (io), 46 P33.10 (io), 51 P23.1 (io), 53 XTAL1, 54 XTAL2, 56 P21.2 (io), 57 P21.3 (io), 58 P21.4 (io), 59 P21.6 (io), 60 TMS/DAP1 (io), 61 P21.7/TDO/DAP2 (io), 62 ~{TRST} (in), 63 TCK/DAP0 (in), 64 P20.2/~{TESTMODE} (in), 65 ~{ESR1} (io), 66 ~{PORST} (in), 67 ~{ESR0} (io), 69 P20.8 (io), 70 P20.9 (io), 71 P20.10 (io), 72 P20.11 (io), 73 P20.12 (io), 74 P20.13 (io), 75 P20.14 (io), 76 P15.0 (io), 77 P15.1 (io), 78 P15.2 (io), 79 P15.3 (io), 80 P15.5 (io), 81 P14.0 (io), 82 P14.1 (io), 83 P14.3 (io), 84 P14.4 (io), 85 P14.6 (io), 87 P13.0 (io), 88 P13.1 (io), 89 P13.2 (io), 90 P13.3 (io), 91 P11.2 (io), 92 P11.3 (io), 93 P11.6 (io), 94 P11.9 (io), 95 P11.8 (io), 96 P11.10 (io), 97 P11.11 (io), 98 P11.12 (io), 99 P10.5 (io), 100 P10.6 (io)
part B pins: 11 VDD (power), 12 VDDP3 (power), 30 VAGND (power), 31 VAREF (power), 32 VSSM (power), 33 VDDM (power), 47 VDDP3 (power), 48 VDD (power), 49 VCAP0 (power), 50 VCAP1 (power), 52 VDD (power), 55 VDDP3 (power), 68 VDD (power), 86 VDDP3 (power), 101 EP (power)

## SAL-TC233LP-32F200F AB
designator U?
AURIX MCU with 192 KB SRAM, 2 MB Flash, 200 MHz Frequency, -40 to 150 degC, PG-TQFP-100; ADC Chan.: 24; Core 0 TC16E DSPR (KB): 184; Core 0 TC16E PSPR (KB): 8; DFLASH (KB@cycles): 128@125k; ETH: No; Flash (MB): 2; FlexRay (#/ch.): 1 / 2; Freq. (MHz): 200; HSM: Yes; Total SRAM (KB): 192; DatasheetVersion: Rev. 1.1; PackageReference: PG-TQFP-100-23; PackageDescription: 100-Pin Plastic (Green) Low Profile Quad Flat Package, 12 x 12 mm Body, 0.4 mm Pitch; Mounting Technology: Surface Mount; ComponentLink1Description: Manufacturer URL; ComponentLink1URL: http://www.infineon.com/
footprint INF-PG-TQFP-100-23-5700X5700TP_V (QFP, 100-Leads, Body 12x12mm, Pitch 0.4mm, Thermal Pad 5.7x5.7mm)
part A pins: 1 P02.0 (io), 2 P02.1 (io), 3 P02.2 (io), 4 P02.3 (io), 5 P02.4 (io), 6 P02.5 (io), 7 P02.6 (io), 8 P02.7 (io), 9 P02.8 (io), 10 P00.0 (io), 13 P41.11/AN23 (in), 14 P41.10/AN22 (in), 15 P41.9/AN21 (in), 16 P41.8/AN20 (in), 17 P41.7/AN19 (in), 18 P41.6/AN18 (in), 19 P41.5/AN17 (in), 20 P41.4/AN16 (in), 21 P41.3/AN15 (in), 22 P41.2/AN14 (in), 23 P41.1/AN13 (in), 24 P41.0/AN12 (in), 25 P40.11/AN11 (in), 26 P40.10/AN10 (in), 27 P40.9/AN9 (in), 28 P40.8/AN8 (in), 29 P40.7/AN7 (in), 34 P40.6/AN6 (in), 35 P40.5/AN5 (in), 36 P40.4/AN4 (in), 37 P40.3/AN3 (in), 38 P40.2/AN2 (in), 39 P40.1/AN1 (in), 40 P40.0/AN0 (in), 41 P33.5 (io), 42 P33.6 (io), 43 P33.7 (io), 44 P33.8 (io), 45 P33.9 (io), 46 P33.10 (io), 51 P23.1 (io), 53 XTAL1, 54 XTAL2, 56 P21.2 (io), 57 P21.3 (io), 58 P21.4 (io), 59 P21.6 (io), 60 TMS/DAP1 (io), 61 P21.7/TDO/DAP2 (io), 62 ~{TRST} (in), 63 TCK/DAP0 (in), 64 P20.2/~{TESTMODE} (in), 65 ~{ESR1} (io), 66 ~{PORST} (in), 67 ~{ESR0} (io), 69 P20.8 (io), 70 P20.9 (io), 71 P20.10 (io), 72 P20.11 (io), 73 P20.12 (io), 74 P20.13 (io), 75 P20.14 (io), 76 P15.0 (io), 77 P15.1 (io), 78 P15.2 (io), 79 P15.3 (io), 80 P15.5 (io), 81 P14.0 (io), 82 P14.1 (io), 83 P14.3 (io), 84 P14.4 (io), 85 P14.6 (io), 87 P13.0 (io), 88 P13.1 (io), 89 P13.2 (io), 90 P13.3 (io), 91 P11.2 (io), 92 P11.3 (io), 93 P11.6 (io), 94 P11.9 (io), 95 P11.8 (io), 96 P11.10 (io), 97 P11.11 (io), 98 P11.12 (io), 99 P10.5 (io), 100 P10.6 (io)
part B pins: 11 VDD (power), 12 VDDP3 (power), 30 VAGND (power), 31 VAREF (power), 32 VSSM (power), 33 VDDM (power), 47 VDDP3 (power), 48 VDD (power), 49 VCAP0 (power), 50 VCAP1 (power), 52 VDD (power), 55 VDDP3 (power), 68 VDD (power), 86 VDDP3 (power), 101 EP (power)

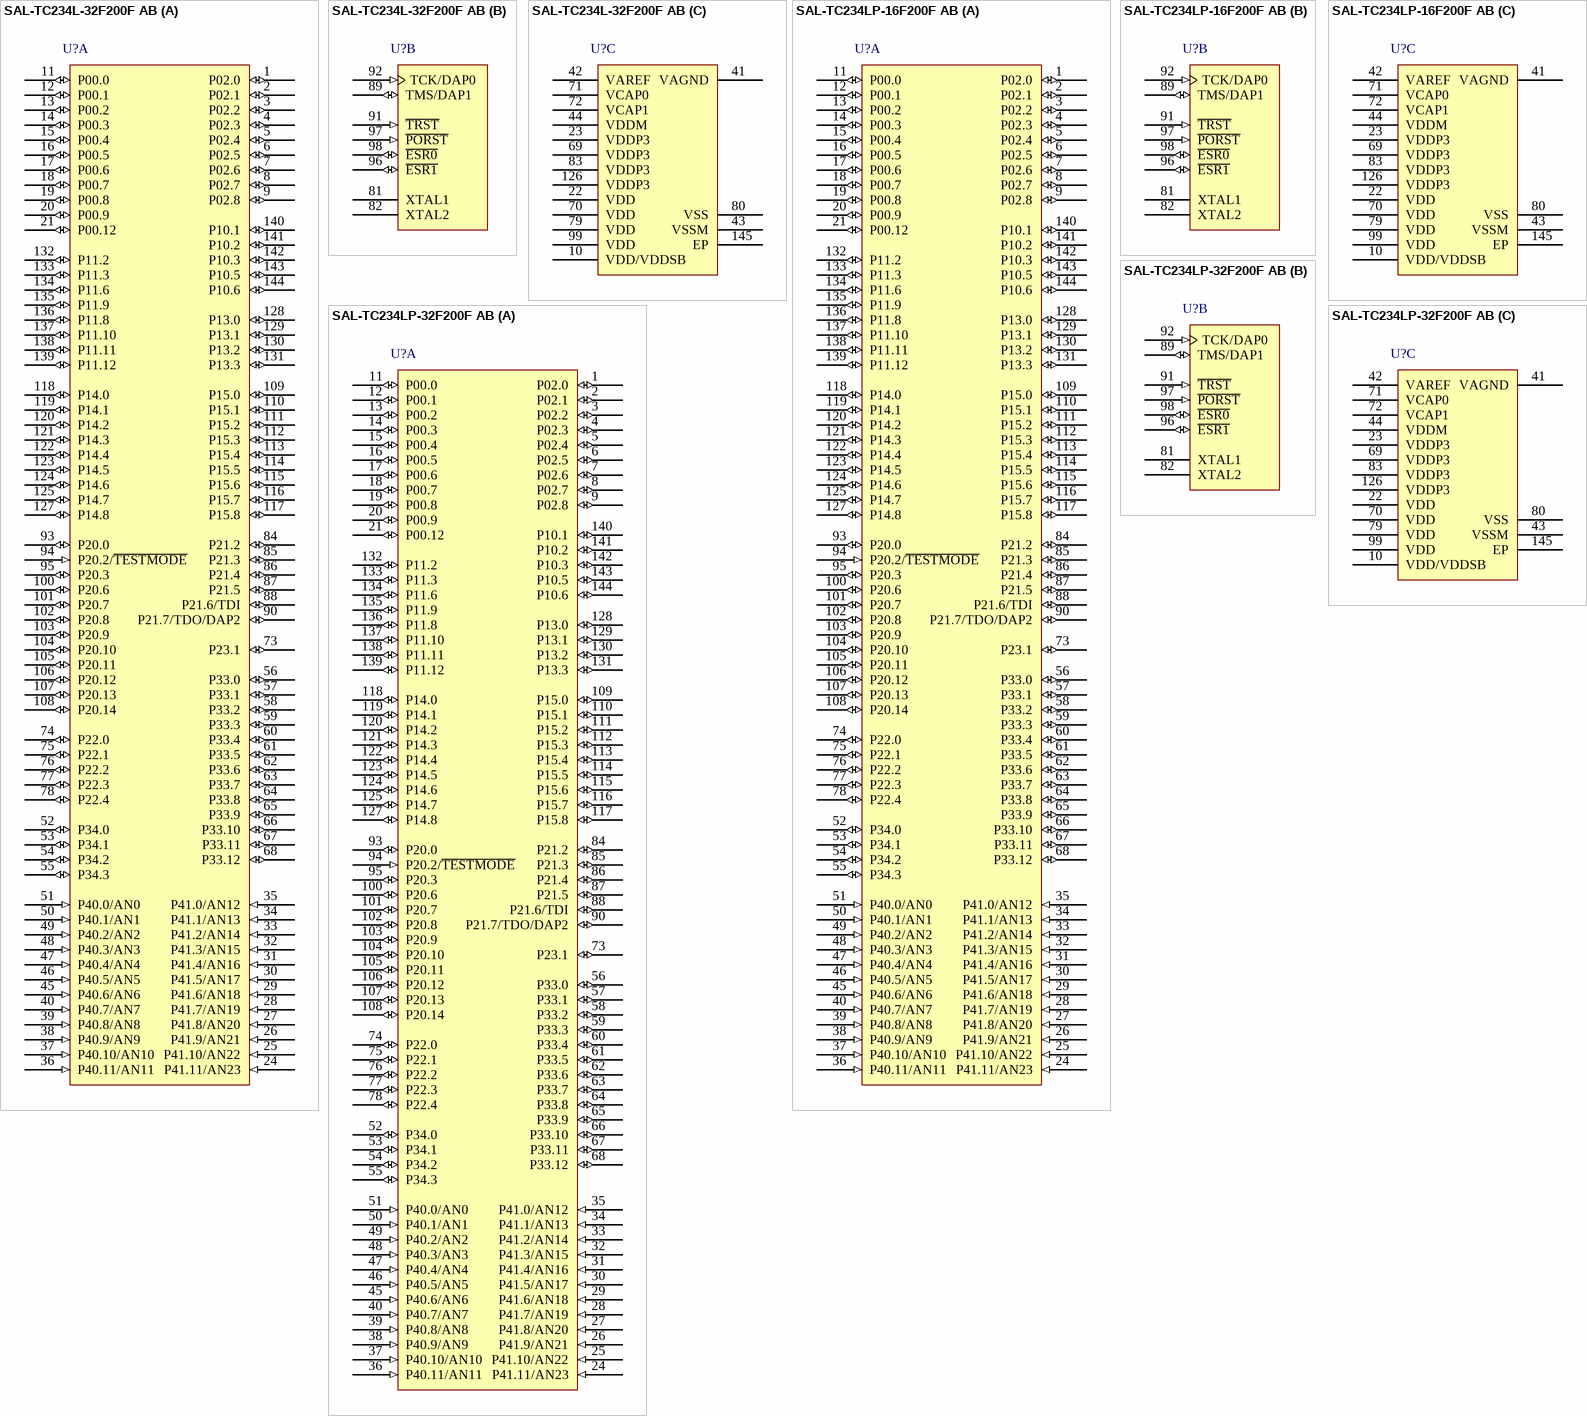
[diagram p28: symbols SAL-TC234L-32F200F AB to SAL-TC234LP-32F200F AB]

## SAL-TC234L-32F200F AB
designator U?
AURIX MCU with 192 KB SRAM, 2 MB Flash, 200 MHz Frequency, -40 to 150 degC, PG-TQFP-144; ADC Chan.: 24; Core 0 TC16E DSPR (KB): 184; Core 0 TC16E PSPR (KB): 8; DFLASH (KB@cycles): 128@125k; ETH: No; Flash (MB): 2; FlexRay (#/ch.): 1 / 2; Freq. (MHz): 200; Total SRAM (KB): 192; DatasheetVersion: Rev. 1.1; PackageReference: PG-TQFP-144-27; PackageDescription: 144-Pin Plastic (Green) Low Profile Quad Flat Package, 16 x 16 mm Body, 0.4 mm Pitch; HSM: No; Mounting Technology: Surface Mount; ComponentLink1Description: Manufacturer URL; ComponentLink1URL: http://www.infineon.com/
footprint INF-PG-TQFP-144-27-5700X5700TP_V (QFP, 144-Leads, Body 16x16mm, Pitch 0.4mm, Thermal Pad 5.7x5.7mm)
part A pins: 1 P02.0 (io), 2 P02.1 (io), 3 P02.2 (io), 4 P02.3 (io), 5 P02.4 (io), 6 P02.5 (io), 7 P02.6 (io), 8 P02.7 (io), 9 P02.8 (io), 11 P00.0 (io), 12 P00.1 (io), 13 P00.2 (io), 14 P00.3 (io), 15 P00.4 (io), 16 P00.5 (io), 17 P00.6 (io), 18 P00.7 (io), 19 P00.8 (io), 20 P00.9 (io), 21 P00.12 (io), 24 P41.11/AN23 (in), 25 P41.10/AN22 (in), 26 P41.9/AN21 (in), 27 P41.8/AN20 (in), 28 P41.7/AN19 (in), 29 P41.6/AN18 (in), 30 P41.5/AN17 (in), 31 P41.4/AN16 (in), 32 P41.3/AN15 (in), 33 P41.2/AN14 (in), 34 P41.1/AN13 (in), 35 P41.0/AN12 (in), 36 P40.11/AN11 (in), 37 P40.10/AN10 (in), 38 P40.9/AN9 (in), 39 P40.8/AN8 (in), 40 P40.7/AN7 (in), 45 P40.6/AN6 (in), 46 P40.5/AN5 (in), 47 P40.4/AN4 (in), 48 P40.3/AN3 (in), 49 P40.2/AN2 (in), 50 P40.1/AN1 (in), 51 P40.0/AN0 (in), 52 P34.0 (io), 53 P34.1 (io), 54 P34.2 (io), 55 P34.3 (io), 56 P33.0 (io), 57 P33.1 (io), 58 P33.2 (io), 59 P33.3 (io), 60 P33.4 (io), 61 P33.5 (io), 62 P33.6 (io), 63 P33.7 (io), 64 P33.8 (io), 65 P33.9 (io), 66 P33.10 (io), 67 P33.11 (io), 68 P33.12 (io), 73 P23.1 (io), 74 P22.0 (io), 75 P22.1 (io), 76 P22.2 (io), 77 P22.3 (io), 78 P22.4 (io), 84 P21.2 (io), 85 P21.3 (io), 86 P21.4 (io), 87 P21.5 (io), 88 P21.6/TDI (io), 90 P21.7/TDO/DAP2 (io), 93 P20.0 (io), 94 P20.2/~{TESTMODE} (in), 95 P20.3 (io), 100 P20.6 (io), 101 P20.7 (io), 102 P20.8 (io), 103 P20.9 (io), 104 P20.10 (io), 105 P20.11 (io), 106 P20.12 (io), 107 P20.13 (io), 108 P20.14 (io), 109 P15.0 (io), 110 P15.1 (io), 111 P15.2 (io), 112 P15.3 (io), 113 P15.4 (io), 114 P15.5 (io), 115 P15.6 (io), 116 P15.7 (io), 117 P15.8 (io), 118 P14.0 (io), 119 P14.1 (io), 120 P14.2 (io), 121 P14.3 (io), 122 P14.4 (io), 123 P14.5 (io), 124 P14.6 (io), 125 P14.7 (io), 127 P14.8 (io), 128 P13.0 (io), 129 P13.1 (io), 130 P13.2 (io), 131 P13.3 (io), 132 P11.2 (io), 133 P11.3 (io), 134 P11.6 (io), 135 P11.9 (io), 136 P11.8 (io), 137 P11.10 (io), 138 P11.11 (io), 139 P11.12 (io), 140 P10.1 (io), 141 P10.2 (io), 142 P10.3 (io), 143 P10.5 (io), 144 P10.6 (io)
part B pins: 81 XTAL1, 82 XTAL2, 89 TMS/DAP1 (io), 91 ~{TRST} (in), 92 TCK/DAP0 (in), 96 ~{ESR1} (io), 97 ~{PORST} (in), 98 ~{ESR0} (io)
part C pins: 10 VDD/VDDSB (power), 22 VDD (power), 23 VDDP3 (power), 41 VAGND (power), 42 VAREF (power), 43 VSSM (power), 44 VDDM (power), 69 VDDP3 (power), 70 VDD (power), 71 VCAP0 (power), 72 VCAP1 (power), 79 VDD (power), 80 VSS (power), 83 VDDP3 (power), 99 VDD (power), 126 VDDP3 (power), 145 EP (power)

## SAL-TC234LP-16F200F AB
designator U?
AURIX MCU with 96 KB SRAM, 1 MB Flash, 200 MHz Frequency, -40 to 150 degC, PG-TQFP-144; ADC Chan.: 24; Core 0 TC16E DSPR (KB): 88; Core 0 TC16E PSPR (KB): 8; DFLASH (KB@cycles): 128@125k; ETH: No; Flash (MB): 1; FlexRay (#/ch.): 1 / 2; Freq. (MHz): 200; HSM: Yes; Total SRAM (KB): 96; DatasheetVersion: Rev. 1.1; PackageReference: PG-TQFP-144-27; PackageDescription: 144-Pin Plastic (Green) Low Profile Quad Flat Package, 16 x 16 mm Body, 0.4 mm Pitch; Mounting Technology: Surface Mount; ComponentLink1Description: Manufacturer URL; ComponentLink1URL: http://www.infineon.com/
footprint INF-PG-TQFP-144-27-5700X5700TP_V (QFP, 144-Leads, Body 16x16mm, Pitch 0.4mm, Thermal Pad 5.7x5.7mm)
part A pins: 1 P02.0 (io), 2 P02.1 (io), 3 P02.2 (io), 4 P02.3 (io), 5 P02.4 (io), 6 P02.5 (io), 7 P02.6 (io), 8 P02.7 (io), 9 P02.8 (io), 11 P00.0 (io), 12 P00.1 (io), 13 P00.2 (io), 14 P00.3 (io), 15 P00.4 (io), 16 P00.5 (io), 17 P00.6 (io), 18 P00.7 (io), 19 P00.8 (io), 20 P00.9 (io), 21 P00.12 (io), 24 P41.11/AN23 (in), 25 P41.10/AN22 (in), 26 P41.9/AN21 (in), 27 P41.8/AN20 (in), 28 P41.7/AN19 (in), 29 P41.6/AN18 (in), 30 P41.5/AN17 (in), 31 P41.4/AN16 (in), 32 P41.3/AN15 (in), 33 P41.2/AN14 (in), 34 P41.1/AN13 (in), 35 P41.0/AN12 (in), 36 P40.11/AN11 (in), 37 P40.10/AN10 (in), 38 P40.9/AN9 (in), 39 P40.8/AN8 (in), 40 P40.7/AN7 (in), 45 P40.6/AN6 (in), 46 P40.5/AN5 (in), 47 P40.4/AN4 (in), 48 P40.3/AN3 (in), 49 P40.2/AN2 (in), 50 P40.1/AN1 (in), 51 P40.0/AN0 (in), 52 P34.0 (io), 53 P34.1 (io), 54 P34.2 (io), 55 P34.3 (io), 56 P33.0 (io), 57 P33.1 (io), 58 P33.2 (io), 59 P33.3 (io), 60 P33.4 (io), 61 P33.5 (io), 62 P33.6 (io), 63 P33.7 (io), 64 P33.8 (io), 65 P33.9 (io), 66 P33.10 (io), 67 P33.11 (io), 68 P33.12 (io), 73 P23.1 (io), 74 P22.0 (io), 75 P22.1 (io), 76 P22.2 (io), 77 P22.3 (io), 78 P22.4 (io), 84 P21.2 (io), 85 P21.3 (io), 86 P21.4 (io), 87 P21.5 (io), 88 P21.6/TDI (io), 90 P21.7/TDO/DAP2 (io), 93 P20.0 (io), 94 P20.2/~{TESTMODE} (in), 95 P20.3 (io), 100 P20.6 (io), 101 P20.7 (io), 102 P20.8 (io), 103 P20.9 (io), 104 P20.10 (io), 105 P20.11 (io), 106 P20.12 (io), 107 P20.13 (io), 108 P20.14 (io), 109 P15.0 (io), 110 P15.1 (io), 111 P15.2 (io), 112 P15.3 (io), 113 P15.4 (io), 114 P15.5 (io), 115 P15.6 (io), 116 P15.7 (io), 117 P15.8 (io), 118 P14.0 (io), 119 P14.1 (io), 120 P14.2 (io), 121 P14.3 (io), 122 P14.4 (io), 123 P14.5 (io), 124 P14.6 (io), 125 P14.7 (io), 127 P14.8 (io), 128 P13.0 (io), 129 P13.1 (io), 130 P13.2 (io), 131 P13.3 (io), 132 P11.2 (io), 133 P11.3 (io), 134 P11.6 (io), 135 P11.9 (io), 136 P11.8 (io), 137 P11.10 (io), 138 P11.11 (io), 139 P11.12 (io), 140 P10.1 (io), 141 P10.2 (io), 142 P10.3 (io), 143 P10.5 (io), 144 P10.6 (io)
part B pins: 81 XTAL1, 82 XTAL2, 89 TMS/DAP1 (io), 91 ~{TRST} (in), 92 TCK/DAP0 (in), 96 ~{ESR1} (io), 97 ~{PORST} (in), 98 ~{ESR0} (io)
part C pins: 10 VDD/VDDSB (power), 22 VDD (power), 23 VDDP3 (power), 41 VAGND (power), 42 VAREF (power), 43 VSSM (power), 44 VDDM (power), 69 VDDP3 (power), 70 VDD (power), 71 VCAP0 (power), 72 VCAP1 (power), 79 VDD (power), 80 VSS (power), 83 VDDP3 (power), 99 VDD (power), 126 VDDP3 (power), 145 EP (power)

## SAL-TC234LP-32F200F AB
designator U?
AURIX MCU with 192 KB SRAM, 2 MB Flash, 200 MHz Frequency, -40 to 150 degC, PG-TQFP-144; ADC Chan.: 24; Core 0 TC16E DSPR (KB): 184; Core 0 TC16E PSPR (KB): 8; DFLASH (KB@cycles): 128@125k; ETH: No; Flash (MB): 2; FlexRay (#/ch.): 1 / 2; Freq. (MHz): 200; HSM: Yes; Total SRAM (KB): 192; DatasheetVersion: Rev. 1.1; PackageReference: PG-TQFP-144-27; PackageDescription: 144-Pin Plastic (Green) Low Profile Quad Flat Package, 16 x 16 mm Body, 0.4 mm Pitch; Mounting Technology: Surface Mount; ComponentLink1Description: Manufacturer URL; ComponentLink1URL: http://www.infineon.com/
footprint INF-PG-TQFP-144-27-5700X5700TP_V (QFP, 144-Leads, Body 16x16mm, Pitch 0.4mm, Thermal Pad 5.7x5.7mm)
part A pins: 1 P02.0 (io), 2 P02.1 (io), 3 P02.2 (io), 4 P02.3 (io), 5 P02.4 (io), 6 P02.5 (io), 7 P02.6 (io), 8 P02.7 (io), 9 P02.8 (io), 11 P00.0 (io), 12 P00.1 (io), 13 P00.2 (io), 14 P00.3 (io), 15 P00.4 (io), 16 P00.5 (io), 17 P00.6 (io), 18 P00.7 (io), 19 P00.8 (io), 20 P00.9 (io), 21 P00.12 (io), 24 P41.11/AN23 (in), 25 P41.10/AN22 (in), 26 P41.9/AN21 (in), 27 P41.8/AN20 (in), 28 P41.7/AN19 (in), 29 P41.6/AN18 (in), 30 P41.5/AN17 (in), 31 P41.4/AN16 (in), 32 P41.3/AN15 (in), 33 P41.2/AN14 (in), 34 P41.1/AN13 (in), 35 P41.0/AN12 (in), 36 P40.11/AN11 (in), 37 P40.10/AN10 (in), 38 P40.9/AN9 (in), 39 P40.8/AN8 (in), 40 P40.7/AN7 (in), 45 P40.6/AN6 (in), 46 P40.5/AN5 (in), 47 P40.4/AN4 (in), 48 P40.3/AN3 (in), 49 P40.2/AN2 (in), 50 P40.1/AN1 (in), 51 P40.0/AN0 (in), 52 P34.0 (io), 53 P34.1 (io), 54 P34.2 (io), 55 P34.3 (io), 56 P33.0 (io), 57 P33.1 (io), 58 P33.2 (io), 59 P33.3 (io), 60 P33.4 (io), 61 P33.5 (io), 62 P33.6 (io), 63 P33.7 (io), 64 P33.8 (io), 65 P33.9 (io), 66 P33.10 (io), 67 P33.11 (io), 68 P33.12 (io), 73 P23.1 (io), 74 P22.0 (io), 75 P22.1 (io), 76 P22.2 (io), 77 P22.3 (io), 78 P22.4 (io), 84 P21.2 (io), 85 P21.3 (io), 86 P21.4 (io), 87 P21.5 (io), 88 P21.6/TDI (io), 90 P21.7/TDO/DAP2 (io), 93 P20.0 (io), 94 P20.2/~{TESTMODE} (in), 95 P20.3 (io), 100 P20.6 (io), 101 P20.7 (io), 102 P20.8 (io), 103 P20.9 (io), 104 P20.10 (io), 105 P20.11 (io), 106 P20.12 (io), 107 P20.13 (io), 108 P20.14 (io), 109 P15.0 (io), 110 P15.1 (io), 111 P15.2 (io), 112 P15.3 (io), 113 P15.4 (io), 114 P15.5 (io), 115 P15.6 (io), 116 P15.7 (io), 117 P15.8 (io), 118 P14.0 (io), 119 P14.1 (io), 120 P14.2 (io), 121 P14.3 (io), 122 P14.4 (io), 123 P14.5 (io), 124 P14.6 (io), 125 P14.7 (io), 127 P14.8 (io), 128 P13.0 (io), 129 P13.1 (io), 130 P13.2 (io), 131 P13.3 (io), 132 P11.2 (io), 133 P11.3 (io), 134 P11.6 (io), 135 P11.9 (io), 136 P11.8 (io), 137 P11.10 (io), 138 P11.11 (io), 139 P11.12 (io), 140 P10.1 (io), 141 P10.2 (io), 142 P10.3 (io), 143 P10.5 (io), 144 P10.6 (io)
part B pins: 81 XTAL1, 82 XTAL2, 89 TMS/DAP1 (io), 91 ~{TRST} (in), 92 TCK/DAP0 (in), 96 ~{ESR1} (io), 97 ~{PORST} (in), 98 ~{ESR0} (io)
part C pins: 10 VDD/VDDSB (power), 22 VDD (power), 23 VDDP3 (power), 41 VAGND (power), 42 VAREF (power), 43 VSSM (power), 44 VDDM (power), 69 VDDP3 (power), 70 VDD (power), 71 VCAP0 (power), 72 VCAP1 (power), 79 VDD (power), 80 VSS (power), 83 VDDP3 (power), 99 VDD (power), 126 VDDP3 (power), 145 EP (power)

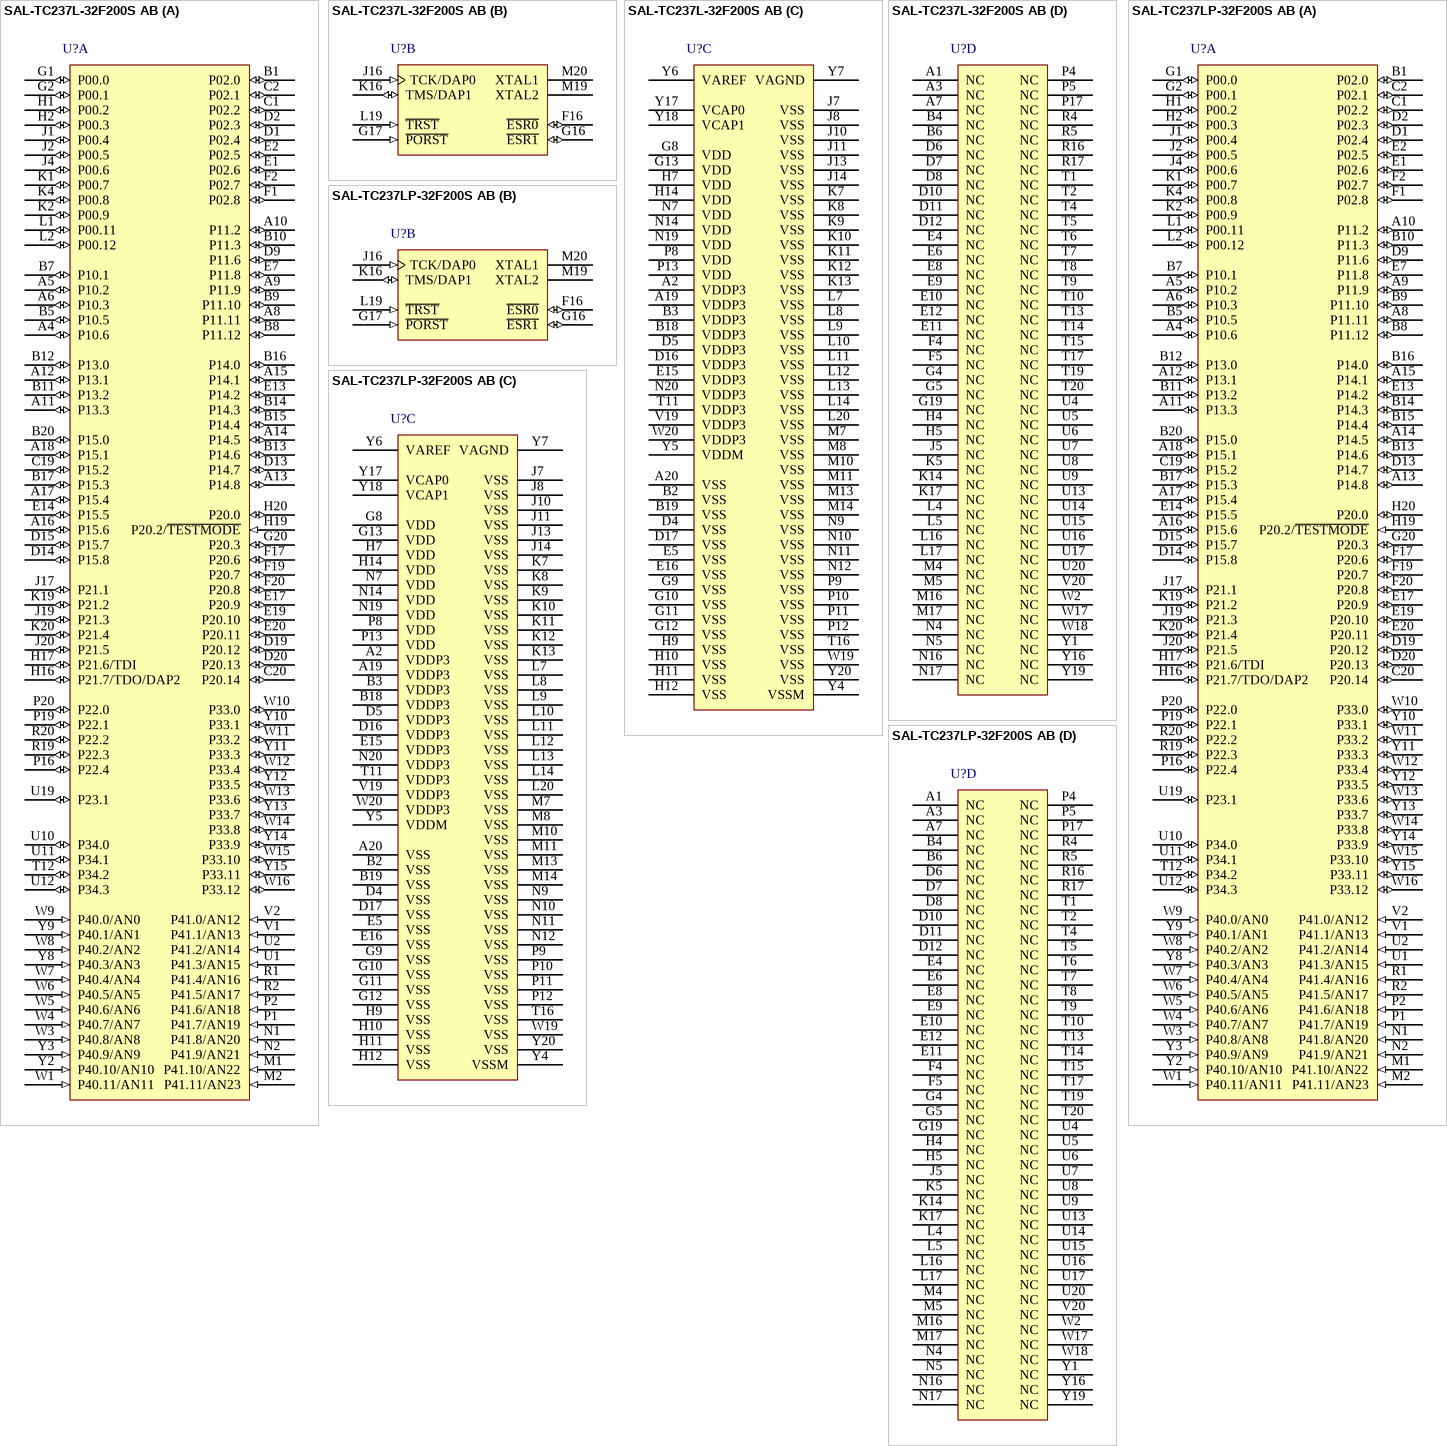
[diagram p29: symbols SAL-TC237L-32F200S AB to SAL-TC237LP-32F200S AB]

## SAL-TC237L-32F200S AB
designator U?
AURIX MCU with 192 KB SRAM, 2 MB Flash, 200 MHz Frequency, -40 to 150 degC, PG-LFBGA-292; ADC Chan.: 24; Core 0 TC16E DSPR (KB): 184; Core 0 TC16E PSPR (KB): 8; DFLASH (KB@cycles): 128@125k; ETH: No; Flash (MB): 2; FlexRay (#/ch.): 1 / 2; Freq. (MHz): 200; Total SRAM (KB): 192; DatasheetVersion: Rev. 1.1; PackageReference: PG-LFBGA-292-6; PackageDescription: 292-Pin Plastic (Green) Low Profile Fine Pitch Ball Grid Array Package, 17 x 17 mm Body, 0.8 mm Pitch; HSM: No; Mounting Technology: Surface Mount; ComponentLink1Description: Manufacturer URL; ComponentLink1URL: http://www.infineon.com/
footprint INF-PG-LFBGA-292-6 (BGA, 292-Balls, Body 17x17mm, Pitch 0.8mm)
part A pins: A4 P10.6 (io), A5 P10.2 (io), A6 P10.3 (io), A8 P11.11 (io), A9 P11.9 (io), A10 P11.2 (io), A11 P13.3 (io), A12 P13.1 (io), A13 P14.8 (io), A14 P14.5 (io), A15 P14.1 (io), A16 P15.6 (io), A17 P15.4 (io), A18 P15.1 (io), B1 P02.0 (io), B5 P10.5 (io), B7 P10.1 (io), B8 P11.12 (io), B9 P11.10 (io), B10 P11.3 (io), B11 P13.2 (io), B12 P13.0 (io), B13 P14.6 (io), B14 P14.3 (io), B15 P14.4 (io), B16 P14.0 (io), B17 P15.3 (io), B20 P15.0 (io), C1 P02.2 (io), C2 P02.1 (io), C19 P15.2 (io), C20 P20.14 (io), D1 P02.4 (io), D2 P02.3 (io), D9 P11.6 (io), D13 P14.7 (io), D14 P15.8 (io), D15 P15.7 (io), D19 P20.12 (io), D20 P20.13 (io), E1 P02.6 (io), E2 P02.5 (io), E7 P11.8 (io), E13 P14.2 (io), E14 P15.5 (io), E17 P20.9 (io), E19 P20.10 (io), E20 P20.11 (io), F1 P02.8 (io), F2 P02.7 (io), F17 P20.6 (io), F19 P20.7 (io), F20 P20.8 (io), G1 P00.0 (io), G2 P00.1 (io), G20 P20.3 (io), H1 P00.2 (io), H2 P00.3 (io), H16 P21.7/TDO/DAP2 (io), H17 P21.6/TDI (io), H19 P20.2/~{TESTMODE} (in), H20 P20.0 (io), J1 P00.4 (io), J2 P00.5 (io), J4 P00.6 (io), J17 P21.1 (io), J19 P21.3 (io), J20 P21.5 (io), K1 P00.7 (io), K2 P00.9 (io), K4 P00.8 (io), K19 P21.2 (io), K20 P21.4 (io), L1 P00.11 (io), L2 P00.12 (io), M1 P41.10/AN22 (in), M2 P41.11/AN23 (in), N1 P41.8/AN20 (in), N2 P41.9/AN21 (in), P1 P41.7/AN19 (in), P2 P41.6/AN18 (in), P16 P22.4 (io), P19 P22.1 (io), P20 P22.0 (io), R1 P41.4/AN16 (in), R2 P41.5/AN17 (in), R19 P22.3 (io), R20 P22.2 (io), T12 P34.2 (io), U1 P41.3/AN15 (in), U2 P41.2/AN14 (in), U10 P34.0 (io), U11 P34.1 (io), U12 P34.3 (io), U19 P23.1 (io), V1 P41.1/AN13 (in), V2 P41.0/AN12 (in), W1 P40.11/AN11 (in), W3 P40.8/AN8 (in), W4 P40.7/AN7 (in), W5 P40.6/AN6 (in), W6 P40.5/AN5 (in), W7 P40.4/AN4 (in), W8 P40.2/AN2 (in), W9 P40.0/AN0 (in), W10 P33.0 (io), W11 P33.2 (io), W12 P33.4 (io), W13 P33.6 (io), W14 P33.8 (io), W15 P33.10 (io), W16 P33.12 (io), Y2 P40.10/AN10 (in), Y3 P40.9/AN9 (in), Y8 P40.3/AN3 (in), Y9 P40.1/AN1 (in), Y10 P33.1 (io), Y11 P33.3 (io), Y12 P33.5 (io), Y13 P33.7 (io), Y14 P33.9 (io), Y15 P33.11 (io)
part B pins: F16 ~{ESR0} (io), G16 ~{ESR1} (io), G17 ~{PORST} (in), J16 TCK/DAP0 (in), K16 TMS/DAP1 (io), L19 ~{TRST} (in), M19 XTAL2, M20 XTAL1
part C pins: A2 VDDP3 (power), A19 VDDP3 (power), A20 VSS (power), B2 VSS (power), B3 VDDP3 (power), B18 VDDP3 (power), B19 VSS (power), D4 VSS (power), D5 VDDP3 (power), D16 VDDP3 (power), D17 VSS (power), E5 VSS (power), E15 VDDP3 (power), E16 VSS (power), G8 VDD (power), G9 VSS (power), G10 VSS (power), G11 VSS (power), G12 VSS (power), G13 VDD (power), H7 VDD (power), H9 VSS (power), H10 VSS (power), H11 VSS (power), H12 VSS (power), H14 VDD (power), J7 VSS (power), J8 VSS (power), J10 VSS (power), J11 VSS (power), J13 VSS (power), J14 VSS (power), K7 VSS (power), K8 VSS (power), K9 VSS (power), K10 VSS (power), K11 VSS (power), K12 VSS (power), K13 VSS (power), L7 VSS (power), L8 VSS (power), L9 VSS (power), L10 VSS (power), L11 VSS (power), L12 VSS (power), L13 VSS (power), L14 VSS (power), L20 VSS (power), M7 VSS (power), M8 VSS (power), M10 VSS (power), M11 VSS (power), M13 VSS (power), M14 VSS (power), N7 VDD (power), N9 VSS (power), N10 VSS (power), N11 VSS (power), N12 VSS (power), N14 VDD (power), N19 VDD (power), N20 VDDP3 (power), P8 VDD (power), P9 VSS (power), P10 VSS (power), P11 VSS (power), P12 VSS (power), P13 VDD (power), T11 VDDP3 (power), T16 VSS (power), V19 VDDP3 (power), W19 VSS (power), W20 VDDP3 (power), Y4 VSSM (power), Y5 VDDM (power), Y6 VAREF (power), Y7 VAGND (power), Y17 VCAP0 (power), Y18 VCAP1 (power), Y20 VSS (power)
part D pins: A1 NC, A3 NC, A7 NC, B4 NC, B6 NC, D6 NC, D7 NC, D8 NC, D10 NC, D11 NC, D12 NC, E4 NC, E6 NC, E8 NC, E9 NC, E10 NC, E11 NC, E12 NC, F4 NC, F5 NC, G4 NC, G5 NC, G19 NC, H4 NC, H5 NC, J5 NC, K5 NC, K14 NC, K17 NC, L4 NC, L5 NC, L16 NC, L17 NC, M4 NC, M5 NC, M16 NC, M17 NC, N4 NC, N5 NC, N16 NC, N17 NC, P4 NC, P5 NC, P17 NC, R4 NC, R5 NC, R16 NC, R17 NC, T1 NC, T2 NC, T4 NC, T5 NC, T6 NC, T7 NC, T8 NC, T9 NC, T10 NC, T13 NC, T14 NC, T15 NC, T17 NC, T19 NC, T20 NC, U4 NC, U5 NC, U6 NC, U7 NC, U8 NC, U9 NC, U13 NC, U14 NC, U15 NC, U16 NC, U17 NC, U20 NC, V20 NC, W2 NC, W17 NC, W18 NC, Y1 NC, Y16 NC, Y19 NC